# Altium schematic symbol library P101DA_Library.SchLib: 81 symbols (part 1 of 2)
Pins are listed as number, name and electrical type; pins without a type are passive.

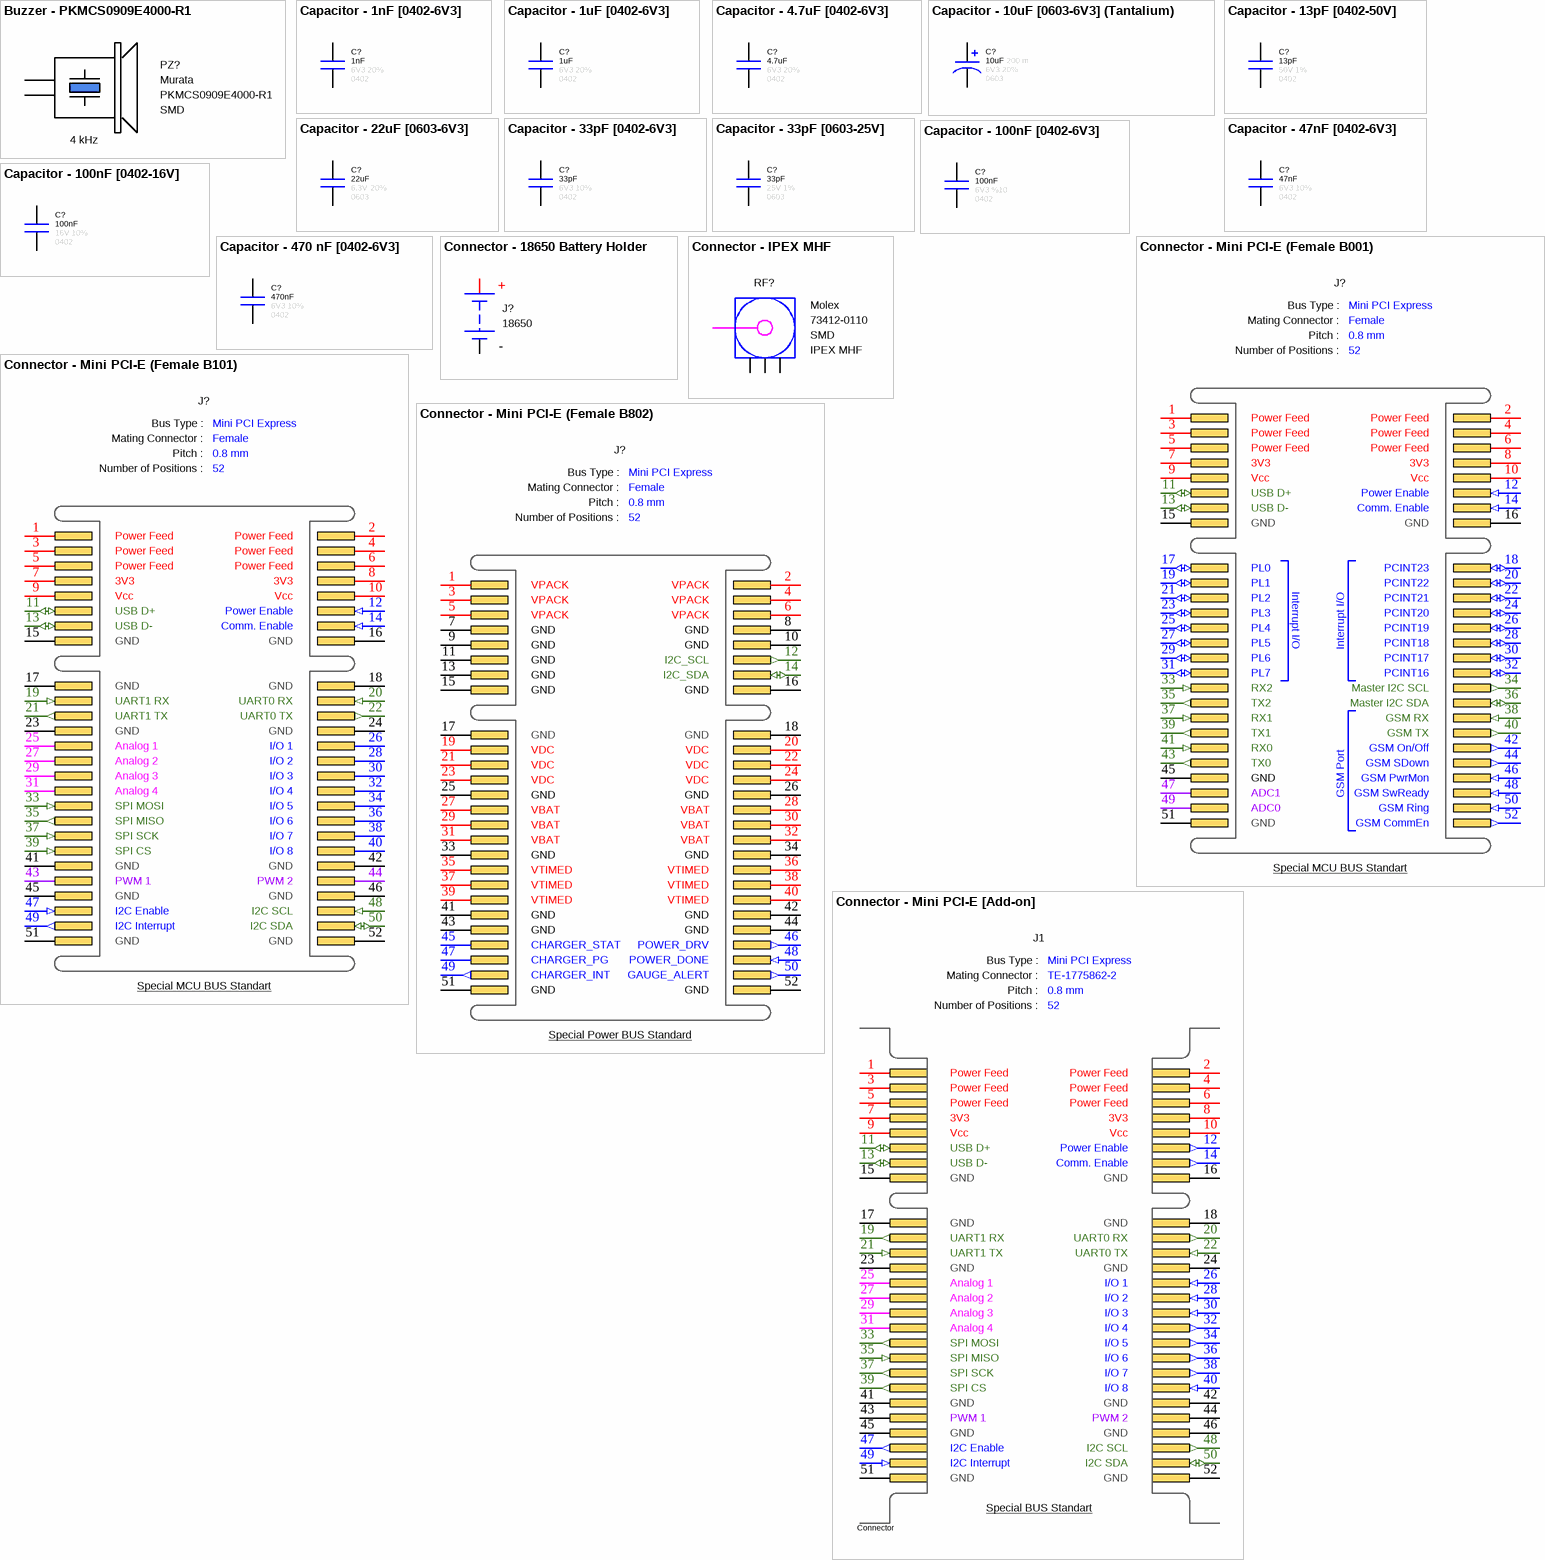
[diagram p0: symbols Buzzer - PKMCS0909E4000-R1 to Connector - Mini PCI-E [Add-on]]

## Buzzer - PKMCS0909E4000-R1
designator PZ?, comment Manufacturer Name: Murata  Case: SMD  Frequency: 4 kHz  (hidden comment: PKMCS0909E4000-R1)
MURATA - PKMCS0909E4000-R1 - Transducer, Piezo, Sounder, Sounder, -12.5 VDC, 12.5 VDC, 65 dB; Sound Pressure Level: 65 dBA; Voltage Rating: 12.5 V; Product Type: Piezo Buzzers; RoHS: Yes; Manufacturer Part Number: PKMCS0909E4000-R1
footprint Murata - Buzzer (PKMCS0909E4000-R1 Buzzer)
pins: 1 +, 2 -

## Capacitor - 1nF [0402-6V3]
designator C?, comment value 1nF  Tolerance: 20%  Case: 0402  Voltage: 6V3  (hidden comment: Capacitor - 1nF [0402] (Ceramic))
Manufacturer Name: AVX; Manufacturer Part Number: 04026C102MAT2A; ComponentLink1Description: DataSheet; ComponentLink1URL: https://www.mouser.com.tr/datasheet/2/40/X7RDielectric-777024.pdf
footprint CAPACITOR_0402 (Chip Capacitor, IPC High Density)
pins: 1, 2

## Capacitor - 1uF [0402-6V3]
designator C?, comment value 1uF  Tolerance: 20%  Case: 0402  Voltage: 6V3  (hidden comment: Capacitor - 1uF [0402] (Ceramic))
Multilayer Ceramic Capacitors - SMD - 6.3V 1uF X5R 0402 20%; Manufacturer Part Number: GRM153R60J105ME95D; Manufacturer Name: Murata
footprint CAPACITOR_0402 (Chip Capacitor, IPC High Density)
pins: 1, 2

## Capacitor - 4.7uF [0402-6V3]
designator C?, comment value 4.7uF  Tolerance: 20%  Case: 0402  Voltage: 6V3  (hidden comment: Capacitor - 4.7uF [0402] (Ceramic))
Multilayer Ceramic Capacitors - SMD - 6V3 4.7uF X5R 0402 20%; Manufacturer Part Number: C0402C475M9PACTU; Manufacturer Name: KEMET
footprint CAPACITOR_0402 (Chip Capacitor, IPC High Density)
pins: 1, 2

## Capacitor - 10uF [0603-6V3] (Tantalium)
designator C?, comment value 10uF  ESR: 200 m  Tolerance: 20%  Case: 0603  Voltage: 6V3  (hidden comment: Capacitor - 10uF [0603] (Tantalum))
Capacitor - 10uF [0603] (Tantalium); Manufacturer Name: AVX; Manufacturer Part Number: F380J106MMAAH3; ComponentLink1Description: DataSheet; ComponentLink1URL: https://www.mouser.com.tr/datasheet/2/40/f38-775706.pdf; ComponentLink2Description: Mouser; ComponentLink2URL: https://www.mouser.com.tr/ProductDetail/AVX/F380J106MMAAH3?qs=sGAEpiMZZMtZ1n0r9vR22fixilZl6Mr8zRKleESmvcDFwZ4LSyC6Pg%3D%3D
footprint CAPACITOR_0603_Tantalum (Chip Capacitor (Tantalum))
pins: 1, 2

## Capacitor - 13pF [0402-50V]
designator C?, comment value 13pF  Tolerance: 1%  Case: 0402  Voltage: 50V  (hidden comment: Capacitor - 13pF [0402] (Ceramic))
Multilayer Ceramic Capacitors - SMD - 50V 13pF X5R 0402 1%; Manufacturer Part Number: CBR04C130F5GAC; Manufacturer Name: KEMET
footprint CAPACITOR_0402 (Chip Capacitor, IPC High Density)
pins: 1, 2

## Capacitor - 22uF [0603-6V3]
designator C?, comment value 22uF  Tolerance: 20%  Case: 0603  Voltage: 6.3V  (hidden comment: Capacitor - 22uF [0603] (Ceramic))
Multilayer Ceramic Capacitors - SMD - 6V3 22uF X5R 0603 20%; Manufacturer Part Number: GRM188R60J226MEA0D; Manufacturer Name: Murata
footprint CAPACITOR_0603 (Chip Capacitor)
pins: 1, 2

## Capacitor - 33pF [0402-6V3]
designator C?, comment value 33pF  Tolerance: 10%  Case: 0402  Voltage: 6V3  (hidden comment: Capacitor - 33pF [0402] (Ceramic))
Manufacturer Name: Kemet; Manufacturer Part Number: C0402C330J9RACAUTO; ComponentLink1Description: DataSheet; ComponentLink1URL: https://api.kemet.com/component-edge/download/datasheet/C0402C330J9RACAUTO.pdf; ComponentLink2Description: Mouser; ComponentLink2URL: https://www.mouser.com/Search/Refine.aspx?Keyword=80-C0402C330J9RAUTO
footprint CAPACITOR_0402 (Chip Capacitor, IPC High Density)
pins: 1, 2

## Capacitor - 33pF [0603-25V]
designator C?, comment value 33pF  Tolerance: 1%  Case: 0603  Voltage: 25V  (hidden comment: Capacitor - 33pF [0603] (Ceramic))
Manufacturer Name: Kyocera AVX; Manufacturer Part Number: 06033A330F4T2A; ComponentLink1Description: DataSheet; ComponentLink1URL: https://api.kemet.com/component-edge/download/datasheet/C0402C330J9RACAUTO.pdf; ComponentLink2Description: Mouser; ComponentLink2URL: https://www.mouser.com/Search/Refine.aspx?Keyword=80-C0402C330J9RAUTO
footprint CAPACITOR_0603 (Chip Capacitor)
pins: 1, 2

## Capacitor - 47nF [0402-6V3]
designator C?, comment value 47nF  Tolerance: 10%  Case: 0402  Voltage: 6V3  (hidden comment: Capacitor - 47nF [0402] (Ceramic))
Multilayer Ceramic Capacitors - SMD - 6.3V 47nF X7R 0402 10%; Manufacturer Name: AVX; Manufacturer Part Number: 04026C473KAT2A
footprint CAPACITOR_0402 (Chip Capacitor, IPC High Density)
pins: 1, 2

## Capacitor - 100nF [0402-6V3]
designator C?, comment value 100nF  Tolerance: %10  Voltage: 6V3  Case: 0402  (hidden comment: Capacitor - 100nF [0402] (Ceramic))
Capacitor - 100nF [0402-6V3] (Ceramic); Manufacturer Name: AVX; Manufacturer Part Number: 04026D104KAT4A; ComponentLink1Description: Mouser; ComponentLink1URL: https://www.mouser.com.tr/ProductDetail/AVX/04026D104KAT4A?qs=sGAEpiMZZMs0AnBnWHyRQPg4iYkCw7IMED%2F4kpqgf7w%3D; ComponentLink2Description: DataSheet; ComponentLink2URL: https://www.mouser.com.tr/datasheet/2/40/cx5r-776519.pdf
footprint CAPACITOR_0402 (Chip Capacitor, IPC High Density)
pins: 1, 2

## Capacitor - 100nF [0402-16V]
designator C?, comment value 100nF  Tolerance: 10%  Case: 0402  Voltage: 16V  (hidden comment: Capacitor - 100nF [0402] (Ceramic))
Multilayer Ceramic Capacitors - SMD - 16V 100nF X7R 0402 10%; Manufacturer Name: AVX; Manufacturer Part Number: 0402YC104KAT2A
footprint CAPACITOR_0402 (Chip Capacitor, IPC High Density)
pins: 1, 2

## Capacitor - 470 nF [0402-6V3]
designator C?, comment value 470nF  Tolerance: 10%  Case: 0402  Voltage: 6V3  (hidden comment: Capacitor - 470nF [0402] (Ceramic))
Multilayer Ceramic Capacitors - SMD - 6.3V 470nF X7R 0402 10%; Manufacturer Name: AVX; Manufacturer Part Number: 04026C474KAT2A
footprint CAPACITOR_0402 (Chip Capacitor, IPC High Density)
pins: 1, 2

## Connector - 18650 Battery Holder
designator J?, comment Battery Size: 18650  (hidden comment: 54)
BATTERY CONTACT CLP 18650 PC PIN; Manufacturer Name: Keystone Electronics; Manufacturer Part Number: 54; Product Type: Battery Holders; RoHS: Yes
footprint BATTERY_HOLDER - Bat (Battery)
pins: 1 BAT+ (power), 2 BAT- (power)
text: +; -

## Connector - IPEX MHF
designator RF?, comment Connector Type: IPEX MHF  Case: SMD  Manufacturer Name: Molex  (hidden comment: 73412-0110)
MOLEX   73412-0110   RF COAXIAL, MICROCOAXIAL, JACK, 50OHM; System: Connector; ROHS: Yes; Product Type: RF Connectors; Impedance: 50 Ohm; Manufacturer Part Number: 73412-0110
footprint Connector_IPEX
pins: 1 Signal, 2 GND, 3 GND, 4 GND

## Connector - Mini PCI-E (Female B001)
designator J?, comment BUS Type: Mini PCI Express  Connector Type: Female  Pitch: 0.8 mm  Number of Positions: 52  (hidden comment: TE-1775862-2)
Mini PCI-Express female connector.; Manufacturer Name: TE Connectivity; Manufacturer Part Number: TE-1775862-2; System: Connector
footprint CONNECTOR - Mini PCIe (Mini PCI Express & mSATA, Board-to-Board, 52 Position, .031 in [.8 mm] Centerline, Stack Height 5.2 mm [.205 in], Gold Flash, Matte, Mini PCI Express)
pins: 1 Pin-1 (power), 2 Pin-2 (power), 3 Pin-3 (power), 4 Pin-4 (power), 5 Pin-5 (power), 6 Pin-6 (power), 7 Pin-7 (power), 8 Pin-8 (power), 9 Pin-9 (power), 10 Pin-10 (power), 11 Pin-11 (io), 12 Pin-12 (in), 13 Pin-13 (io), 14 Pin-14 (in), 15 Pin-15 (power), 16 Pin-16 (power), 17 Pin-17 (io), 18 Pin-18 (io), 19 Pin-19 (io), 20 Pin-20 (io), 21 Pin-21 (io), 22 Pin-22 (io), 23 Pin-23 (io), 24 Pin-24 (io), 25 Pin-25 (io), 26 Pin-26 (io), 27 Pin-27 (io), 28 Pin-28 (io), 29 Pin-29 (io), 30 Pin-30 (io), 31 Pin-31 (io), 32 Pin-32 (io), 33 Pin-33 (in), 34 Pin-34 (out), 35 Pin-35 (out), 36 Pin-36 (io), 37 Pin-37 (in), 38 Pin-38 (in), 39 Pin-39 (out), 40 Pin-40 (out), 41 Pin-41 (in), 42 Pin-42 (out), 43 Pin-43 (out), 44 Pin-44 (out), 45 Pin-45, 46 Pin-46 (in), 47 Pin-47, 48 Pin-48 (in), 49 Pin-49, 50 Pin-50 (in), 51 Pin-51 (power), 52 Pin-52 (out)
text: Bus Type :; Mating Connector :; Pitch :; Number of Positions :; Power Feed; 3V3; Vcc; USB D+; Power Enable; USB D-; Comm. Enable; GND; PL0; PCINT23; PL1; PCINT22; Interrupt I/O; PL2; PCINT21; PL3; PCINT20; PL4; PCINT19; PL5; PCINT18; PL6; PCINT17; PL7; PCINT16; RX2; Master I2C SCL; TX2; Master I2C SDA; RX1; GSM RX; TX1; GSM TX; RX0; GSM Port; GSM On/Off; TX0; GSM SDown; GSM PwrMon; ADC1; GSM SwReady; ADC0; GSM Ring; GSM CommEn; Special MCU BUS Standart

## Connector - Mini PCI-E (Female B101)
designator J?, comment BUS Type: Mini PCI Express  Connector Type: Female  Pitch: 0.8 mm  Number of Positions: 52  (hidden comment: TE-1775862-2)
Mini PCI-Express female connector.; Manufacturer Name: TE Connectivity; Manufacturer Part Number: TE-1775862-2; System: Connector
footprint CONNECTOR - Mini PCIe (Mini PCI Express & mSATA, Board-to-Board, 52 Position, .031 in [.8 mm] Centerline, Stack Height 5.2 mm [.205 in], Gold Flash, Matte, Mini PCI Express)
pins: 1 Pin-1 (power), 2 Pin-2 (power), 3 Pin-3 (power), 4 Pin-4 (power), 5 Pin-5 (power), 6 Pin-6 (power), 7 Pin-7 (power), 8 Pin-8 (power), 9 Pin-9 (power), 10 Pin-10 (power), 11 Pin-11 (io), 12 Pin-12 (in), 13 Pin-13 (io), 14 Pin-14 (in), 15 Pin-15 (power), 16 Pin-16 (power), 17 Pin-17 (power), 18 Pin-18 (power), 19 Pin-19 (in), 20 Pin-20 (in), 21 Pin-21 (out), 22 Pin-22 (out), 23 Pin-23 (power), 24 Pin-24 (power), 25 Pin-25, 26 Pin-26, 27 Pin-27, 28 Pin-28, 29 Pin-29, 30 Pin-30, 31 Pin-31, 32 Pin-32, 33 Pin-33 (in), 34 Pin-34, 35 Pin-35 (out), 36 Pin-36, 37 Pin-37 (in), 38 Pin-38, 39 Pin-39 (in), 40 Pin-40, 41 Pin-41 (power), 42 Pin-42 (power), 43 Pin-43, 44 Pin-44, 45 Pin-45 (power), 46 Pin-46 (power), 47 Pin-47 (in), 48 Pin-48 (in), 49 Pin-49 (out), 50 Pin-50 (io), 51 Pin-51 (power), 52 Pin-52 (power)
text: Bus Type :; Mating Connector :; Pitch :; Number of Positions :; Power Feed; 3V3; Vcc; USB D+; Power Enable; USB D-; Comm. Enable; GND; UART1 RX; UART0 RX; UART1 TX; UART0 TX; Analog 1; I/O 1; Analog 2; I/O 2; Analog 3; I/O 3; Analog 4; I/O 4; SPI MOSI; I/O 5; SPI MISO; I/O 6; SPI SCK; I/O 7; SPI CS; I/O 8; PWM 1; PWM 2; I2C Enable; I2C SCL; I2C Interrupt; I2C SDA; Special MCU BUS Standart

## Connector - Mini PCI-E (Female B802)
designator J?, comment BUS Type: Mini PCI Express  Connector Type: Female  Pitch: 0.8 mm  Number of Positions: 52  (hidden comment: TE-1775862-2)
Mini PCI-Express female connector.; Manufacturer Name: TE Connectivity; Manufacturer Part Number: TE-1775862-2; System: Connector
footprint CONNECTOR - Mini PCIe (Light) (Mini PCI Express & mSATA, Board-to-Board, 52 Position, .031 in [.8 mm] Centerline, Stack Height 5.2 mm [.205 in], Gold Flash, Matte, Mini PCI Express)
pins: 1 Pin-1 (power), 2 Pin-2 (power), 3 Pin-3 (power), 4 Pin-4 (power), 5 Pin-5 (power), 6 Pin-6 (power), 7 Pin-7 (power), 8 Pin-8 (power), 9 Pin-9 (power), 10 Pin-10 (power), 11 Pin-11 (power), 12 Pin-12 (out), 13 Pin-13 (power), 14 Pin-14 (io), 15 Pin-15 (power), 16 Pin-16 (power), 17 Pin-17 (power), 18 Pin-18 (power), 19 Pin-19 (power), 20 Pin-20 (power), 21 Pin-21 (power), 22 Pin-22 (power), 23 Pin-23 (power), 24 Pin-24 (power), 25 Pin-25, 26 Pin-26, 27 Pin-27 (power), 28 Pin-28 (power), 29 Pin-29 (power), 30 Pin-30 (power), 31 Pin-31 (power), 32 Pin-32 (power), 33 Pin-33 (power), 34 Pin-34 (power), 35 Pin-35 (power), 36 Pin-36 (power), 37 Pin-37 (power), 38 Pin-38 (power), 39 Pin-39 (power), 40 Pin-40 (power), 41 Pin-41 (power), 42 Pin-42 (power), 43 Pin-43, 44 Pin-44, 45 Pin-45, 46 Pin-46 (out), 47 Pin-47, 48 Pin-48 (in), 49 Pin-49 (out), 50 Pin-50 (out), 51 Pin-51 (power), 52 Pin-52 (power)
text: Bus Type :; Mating Connector :; Pitch :; Number of Positions :; VPACK; GND; I2C_SCL; I2C_SDA; VDC; VBAT; VTIMED; CHARGER_STAT; POWER_DRV; CHARGER_PG; POWER_DONE; CHARGER_INT; GAUGE_ALERT; Special Power BUS Standard

## Connector - Mini PCI-E [Add-on]
designator J1  BUS Type: Mini PCI Express  Mating Connector: TE-1775862-2  Pitch: 0.8 mm  Number of Positions: 52  System: Connector  (no BOM)
Mini PCI-Express gold finger connector.
footprint PCB - Mini PCI Express
pins: 1 Pin-1 (power), 2 Pin-2 (power), 3 Pin-3 (power), 4 Pin-4 (power), 5 Pin-5 (power), 6 Pin-6 (power), 7 Pin-7 (power), 8 Pin-8 (power), 9 Pin-9 (power), 10 Pin-10 (power), 11 Pin-11 (io), 12 Pin-12 (out), 13 Pin-13 (io), 14 Pin-14 (out), 15 Pin-15 (power), 16 Pin-16 (power), 17 Pin-17 (power), 18 Pin-18 (power), 19 Pin-19 (out), 20 Pin-20 (out), 21 Pin-21 (in), 22 Pin-22 (in), 23 Pin-23 (power), 24 Pin-24 (power), 25 Pin-25, 26 Pin-26 (in), 27 Pin-27, 28 Pin-28 (in), 29 Pin-29, 30 Pin-30 (in), 31 Pin-31, 32 Pin-32 (out), 33 Pin-33 (out), 34 Pin-34 (out), 35 Pin-35 (in), 36 Pin-36 (out), 37 Pin-37 (out), 38 Pin-38 (out), 39 Pin-39 (out), 40 Pin-40 (in), 41 Pin-41 (power), 42 Pin-42 (power), 43 Pin-43, 44 Pin-44, 45 Pin-45 (power), 46 Pin-46 (power), 47 Pin-47 (out), 48 Pin-48 (out), 49 Pin-49 (in), 50 Pin-50 (io), 51 Pin-51 (power), 52 Pin-52 (power)
text: Bus Type :; Mating Connector :; Pitch :; Number of Positions :; Power Feed; 3V3; Vcc; USB D+; Power Enable; USB D-; Comm. Enable; GND; UART1 RX; UART0 RX; UART1 TX; UART0 TX; Analog 1; I/O 1; Analog 2; I/O 2; Analog 3; I/O 3; Analog 4; I/O 4; SPI MOSI; I/O 5; SPI MISO; I/O 6; SPI SCK; I/O 7; SPI CS; I/O 8; PWM 1; PWM 2; I2C Enable; I2C SCL; I2C Interrupt; I2C SDA; Special BUS Standart

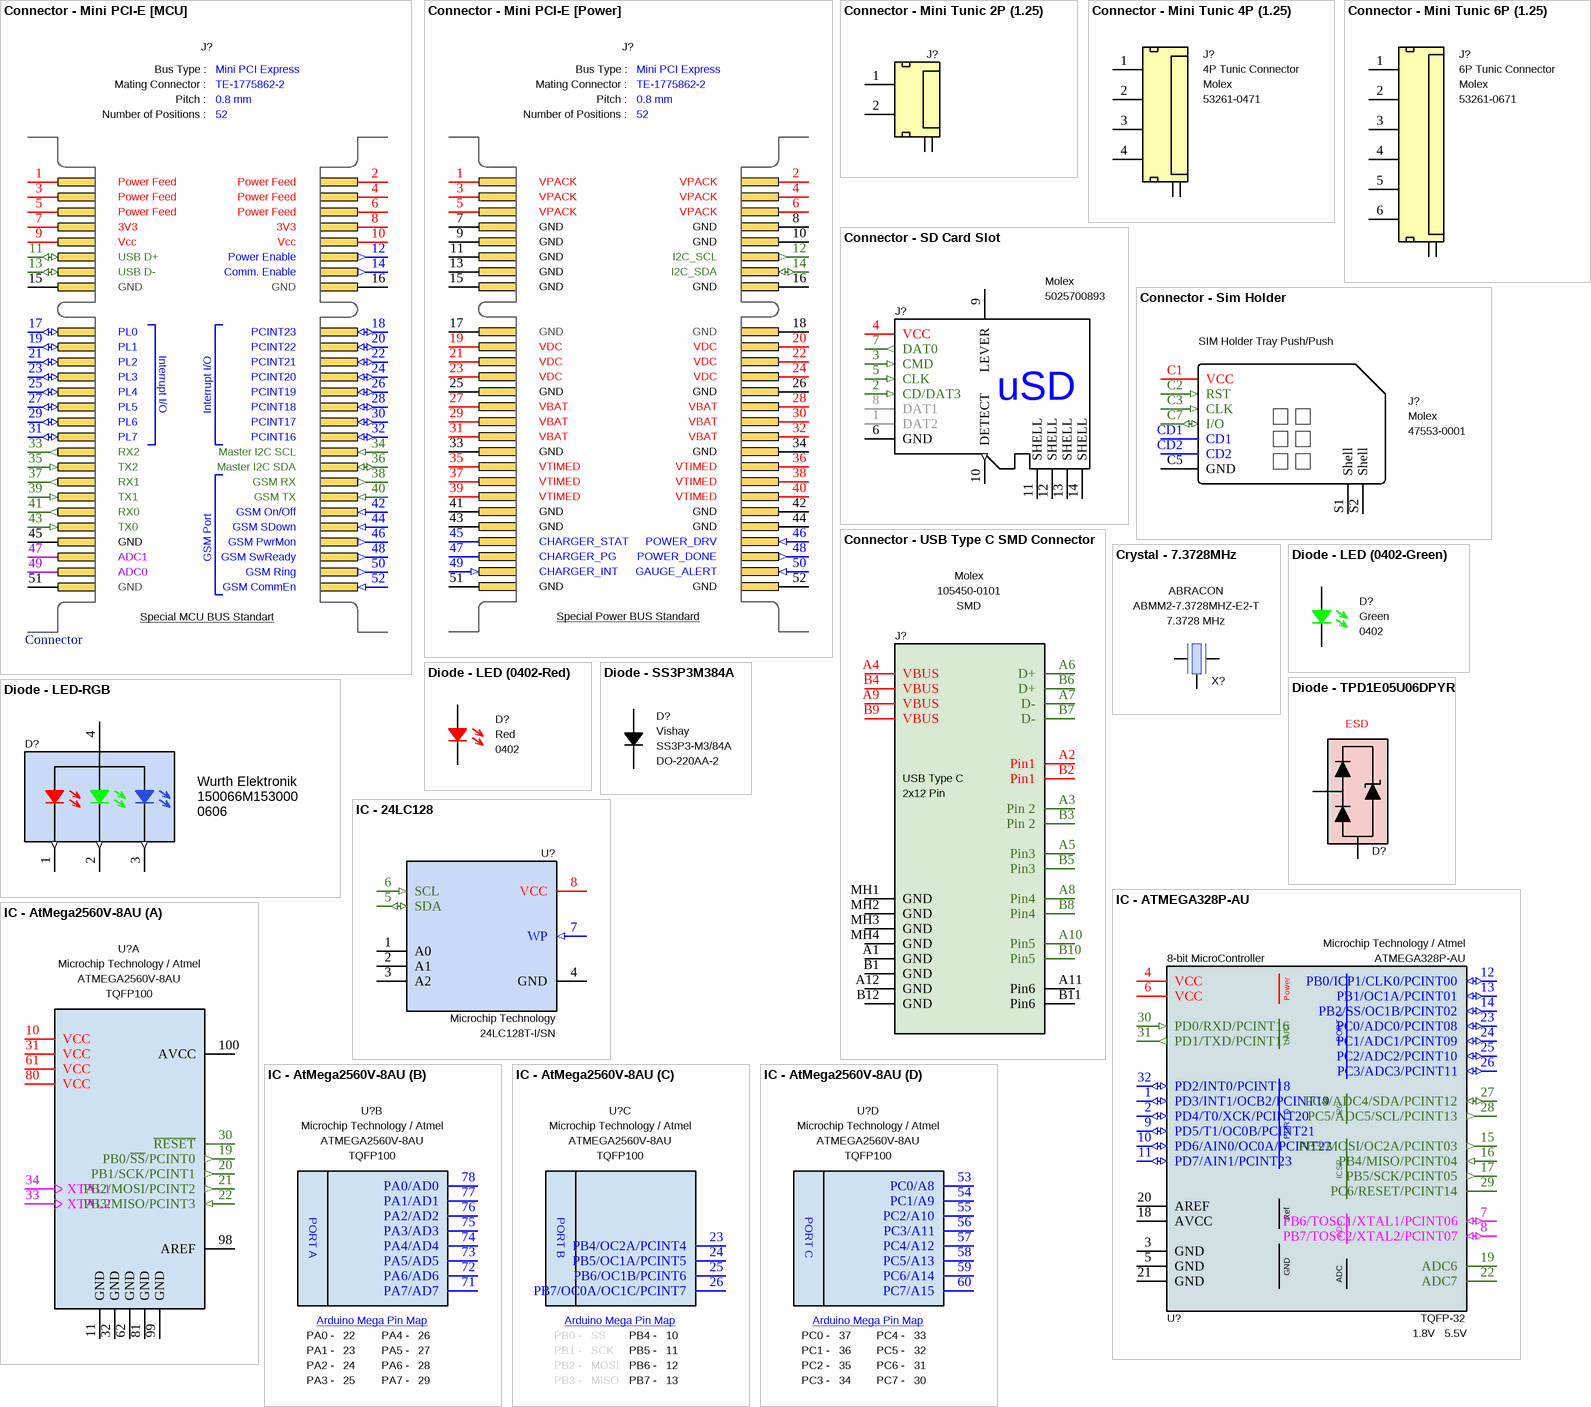
[diagram p1: symbols Connector - Mini PCI-E [MCU] to IC - AtMega2560V-8AU]

## Connector - Mini PCI-E [MCU]
designator J?, comment BUS Type: Mini PCI Express  Mating Connector: TE-1775862-2  Pitch: 0.8 mm  Number of Positions: 52  System: Connector  (hidden comment: PCI-E Connector)  (no BOM)
Mini PCI-Express gold finger connector.
footprint PCB - Mini PCI Express
pins: 1 Pin-1 (power), 2 Pin-2 (power), 3 Pin-3 (power), 4 Pin-4 (power), 5 Pin-5 (power), 6 Pin-6 (power), 7 Pin-7 (power), 8 Pin-8 (power), 9 Pin-9 (power), 10 Pin-10 (power), 11 Pin-11 (io), 12 Pin-12 (out), 13 Pin-13 (io), 14 Pin-14 (out), 15 Pin-15 (power), 16 Pin-16 (power), 17 Pin-17 (io), 18 Pin-18 (io), 19 Pin-19 (io), 20 Pin-20 (io), 21 Pin-21 (io), 22 Pin-22 (io), 23 Pin-23 (io), 24 Pin-24 (io), 25 Pin-25 (io), 26 Pin-26 (io), 27 Pin-27 (io), 28 Pin-28 (io), 29 Pin-29 (io), 30 Pin-30 (io), 31 Pin-31 (io), 32 Pin-32 (io), 33 Pin-33 (out), 34 Pin-34 (in), 35 Pin-35 (in), 36 Pin-36 (io), 37 Pin-37 (out), 38 Pin-38 (out), 39 Pin-39 (in), 40 Pin-40 (in), 41 Pin-41 (out), 42 Pin-42 (in), 43 Pin-43 (in), 44 Pin-44 (in), 45 Pin-45, 46 Pin-46 (out), 47 Pin-47, 48 Pin-48 (out), 49 Pin-49, 50 Pin-50 (out), 51 Pin-51 (power), 52 Pin-52 (in)
text: Bus Type :; Mating Connector :; Pitch :; Number of Positions :; Power Feed; 3V3; Vcc; USB D+; Power Enable; USB D-; Comm. Enable; GND; PL0; PCINT23; PL1; PCINT22; Interrupt I/O; PL2; PCINT21; PL3; PCINT20; PL4; PCINT19; PL5; PCINT18; PL6; PCINT17; PL7; PCINT16; RX2; Master I2C SCL; TX2; Master I2C SDA; RX1; GSM RX; TX1; GSM TX; RX0; GSM Port; GSM On/Off; TX0; GSM SDown; GSM PwrMon; ADC1; GSM SwReady; ADC0; GSM Ring; GSM CommEn; Special MCU BUS Standart

## Connector - Mini PCI-E [Power]
designator J?  BUS Type: Mini PCI Express  Mating Connector: TE-1775862-2  Pitch: 0.8 mm  Number of Positions: 52  (no BOM)
Mini PCI-Express gold finger connector.; System: Connector
footprint PCB - Mini PCI Express
pins: 1 Pin-1 (power), 2 Pin-2 (power), 3 Pin-3 (power), 4 Pin-4 (power), 5 Pin-5 (power), 6 Pin-6 (power), 7 Pin-7 (power), 8 Pin-8 (power), 9 Pin-9 (power), 10 Pin-10 (power), 11 Pin-11 (power), 12 Pin-12 (out), 13 Pin-13 (power), 14 Pin-14 (io), 15 Pin-15 (power), 16 Pin-16 (power), 17 Pin-17 (power), 18 Pin-18 (power), 19 Pin-19 (power), 20 Pin-20 (power), 21 Pin-21 (power), 22 Pin-22 (power), 23 Pin-23 (power), 24 Pin-24 (power), 25 Pin-25, 26 Pin-26, 27 Pin-27 (power), 28 Pin-28 (power), 29 Pin-29 (power), 30 Pin-30 (power), 31 Pin-31 (power), 32 Pin-32 (power), 33 Pin-33 (power), 34 Pin-34 (power), 35 Pin-35 (power), 36 Pin-36 (power), 37 Pin-37 (power), 38 Pin-38 (power), 39 Pin-39 (power), 40 Pin-40 (power), 41 Pin-41 (power), 42 Pin-42 (power), 43 Pin-43, 44 Pin-44, 45 Pin-45, 46 Pin-46 (in), 47 Pin-47, 48 Pin-48 (out), 49 Pin-49 (in), 50 Pin-50 (in), 51 Pin-51 (power), 52 Pin-52 (power)
text: Bus Type :; Mating Connector :; Pitch :; Number of Positions :; VPACK; GND; I2C_SCL; I2C_SDA; VDC; VBAT; VTIMED; CHARGER_STAT; POWER_DRV; CHARGER_PG; POWER_DONE; CHARGER_INT; GAUGE_ALERT; Special Power BUS Standard

## Connector - Mini Tunic 2P (1.25)
designator J?, comment 2P SMD Tunic Connector  (value not drawn)
Mini Tunic Connector with 2P; Manufacturer Name: Molex; Manufacturer Part Number: 53261-0271; Height: 3.55mm; Mouser Part Number: 538-53261-0271; ROHS: Yes
footprint Connector_Tunic 2P (2P Tunic Connector)
pins: 1 Pin1, 2 Pin2, 3 GND "Body Fix Pin", 4 GND "Body Fix Pin"

## Connector - Mini Tunic 4P (1.25)
designator J?, comment Manufacturer Name: Molex  Manufacturer Part Number: 53261-0471  (hidden comment: 4P SMD Tunic Connector)
Mini Tunic Connector with 4P; Pitch: 1.25mm; Position: 4; ROHS: Yes; ComponentLink1Description: DataSheet; ComponentLink1URL: https://www.mouser.com.tr/datasheet/2/276/0532610471_PCB_HEADERS-170942.pdf; ComponentLink2Description: Mouser; ComponentLink2URL: https://www.mouser.com.tr/ProductDetail/Molex/53261-0471?qs=%2Fha2pyFaduhLhIsk8tywtK7BwWtguBSP4XxyDBTOTfs%3D; Case: SMD
footprint Connector_Tunic 4P (4P Tunic Connector)
pins: 1 Pin-1, 2 Pin-2, 3 Pin-3, 4 Pin-4, 5 GND, 6 GND
text: 4P Tunic Connector

## Connector - Mini Tunic 6P (1.25)
designator J?, comment 6P Tunic Connector  Manufacturer Part Number: 53261-0671  Manufacturer Name: Molex
Mini Tunic Connector with 6P; ROHS: Yes
footprint Connector_Tunic 6P (6P Tunic Connector)
pins: 1 VBAT, 2 M_DRV, 3 M_DRV, 4 M_DRV, 5 M_DRV, 6 M_DRV, 7 GND, 8 GND

## Connector - SD Card Slot
designator J?, comment Manufacturer Name: Molex  (hidden comment: 5025700893)
CONN MICRO SD CARD PUSH-PUSH R/A; Product Type: Card Connectors; Case: SMD; RoHS: Yes; Card Type: microSD; Manufacturer Part Number: 5025700893
footprint CONNECTOR - SD Card (Molex 5025700893)
pins: 1 DAT2, 2 CD/DAT3 (in), 3 CMD (in), 4 VCC (power), 5 CLK (in), 6 GND (power), 7 DAT0 (out), 8 DAT1, 9 LEVER (power), 10 DETECT (out), 11 SHELL (power), 12 SHELL (power), 13 SHELL (power), 14 SHELL (power)
text: uSD

## Connector - Sim Holder
designator J?, comment Card Type: SIM Holder Tray Push/Push  Manufacturer Name: Molex  Manufacturer Part Number: 47553-0001  (hidden comment: SIM Holder Tray)
Memory Card Connectors ASSY 1.90 SIM CARD R IM CARD READER CONN.
footprint CONNECTOR - SIM Card (Molex 47553-0001)
pins: C1 VCC (power), C2 RST (in), C3 CLK (in), C5 GND (power), C7 I/O (io), CD1, CD2, S1 Shell (power), S2 Shell (power)

## Connector - USB Type C SMD Connector
designator J?, comment Manufacturer Name: Molex  Case: SMD  (hidden comment: 105450-0101)
USB Shielded I/O Receptacle; Type C; Right Angle; Surface Mount; Gold over Nickel; Current Rating: 5 A.; Gender: Jack (Female); Number of Contacts: 24 Contact; Voltage Rating: 30 V; Maximum Operating Temperature: + 85 C; Minimum Operating Temperature: - 30 C; Mounting Angle: Right Angle; Product Type: USB Connectors; RoHS: Yes; Manufacturer Part Number: 105450-0101
footprint USB Type C - Molex 105450-0101 (Molex Type C Plug)
pins: A1 GND, A2 Pin1, A3 Pin 2, A4 VBUS, A5 Pin3, A6 D+, A7 D-, A8 Pin4, A9 VBUS, A10 Pin5, A11 Pin6, A12 GND, B1 GND, B2 Pin1, B3 Pin 2, B4 VBUS, B5 Pin3, B6 D+, B7 D-, B8 Pin4, B9 VBUS, B10 Pin5, B11 Pin6, B12 GND, MH1 GND, MH2 GND, MH3 GND, MH4 GND
text: USB Type C; 2x12 Pin

## Crystal - 7.3728MHz
designator X?, comment Manufacturer Name: ABRACON  Frequency: 7.3728 MHz  (hidden comment: ABMM2-7.3728MHZ-E2-T)
CRYSTAL 7.3728MHZ 18PF SMD; ESR: 150 Ohms; Product Type: Crystals; Minimum Operating Temperature: - 20 C; Maximum Operating Temperature: + 70 C; Load Capacitance: 18 pF; RoHS: Yes; Case: SMD; Manufacturer Part Number: ABMM2-7.3728MHZ-E2-T
footprint CRYSTAL - 7.3728 MHz (ABMM2-7.3728MHZ-E2-T)
pins: 1 IN/OUT, 2 GND, 3 OUT/IN, 4 GND hidden

## Diode - LED (0402-Green)
designator D?, comment Case: 0402  Color: Green  (hidden comment: SMD LED (Green))
Standard LEDs - SMD MINI-MOLD ULTRA COMPACT GREEN; Manufacturer Name: ROHM Semiconductor; Manufacturer Part Number: SML-P12MTT86R; ROHS: Yes; ComponentLink1Description: DataSheet; ComponentLink1URL: https://www.mouser.com.tr/datasheet/2/348/sml-p1-e-1139198.pdf; ComponentLink2Description: Mouser; ComponentLink2URL: https://www.mouser.com.tr/ProductDetail/ROHM-Semiconductor/SML-P12U2TT86R?qs=sGAEpiMZZMseGfSY3csMkRIBDsfU3UCXJTULB5gem9Ta%252Bp%252BvZ709fg%3D%3D
footprint LED_0402 (LED, IPC High Density)
pins: 1, 2

## Diode - LED (0402-Red)
designator D?, comment Case: 0402  Color: Red  (hidden comment: SMD LED (Red))
Standard LEDs - SMD MINI-MOLD ULTRA COMPACT RED; Manufacturer Name: ROHM Semiconductor; Manufacturer Part Number: SML-P12VTT86R; ROHS: Yes; ComponentLink1Description: DataSheet; ComponentLink1URL: https://www.mouser.com.tr/datasheet/2/348/sml-p1-e-1139198.pdf; ComponentLink2Description: Mouser; ComponentLink2URL: https://www.mouser.com.tr/ProductDetail/ROHM-Semiconductor/SML-P12U2TT86R?qs=sGAEpiMZZMseGfSY3csMkRIBDsfU3UCXJTULB5gem9Ta%252Bp%252BvZ709fg%3D%3D
footprint LED_0402 (LED, IPC High Density)
pins: 1, 2

## Diode - LED-RGB
designator D?, comment Manufacturer Name: Wurth Elektronik  Case: 0606  (hidden comment: 150066M153000)
LED RGB DIFFUSED SMD; If - Forward Current: 20 mA; Vf - Forward Voltage: 2 V, 3.3 V; Product Type: LED; Minimum Operating Temperature: - 40 C; Maximum Operating Temperature: + 85 C; ROHS: Yes; Manufacturer Part Number: 150066M153000
footprint Wurth_0606
pins: 1 (out), 2 (out), 3 (out), 4 (power)

## Diode - SS3P3M384A
designator D?, comment Manufacturer Name: Vishay  Case: DO-220AA-2  (hidden comment: SS3P3-M3/84A)
Schottky Diodes & Rectifiers 3.0 Amp 30 Volt 50 Amp IFSM; Forward Current: 3 A; Forward Voltage: 580 mV; Maximum Operating Temperature: + 150 C; Minimum Operating Temperature: - 55 C; Product Type: Schottky Diodes & Rectifiers; RoHS: Yes; Manufacturer Part Number: SS3P3-M3/84A
footprint DO-220AA-2
pins: 1 Anode, 2 Cathode

## Diode - TPD1E05U06DPYR
designator D?, comment 0402ESDA-MLP1  (value not drawn)
SUPPRESSOR ESD 30VDC 0402 HFREE; Manufacturer Name: Eaton; Breakdown Voltage: 30V; Capacitance: 0.15pF; Manufacturer Part Number: 0402ESDA-MLP1; Case: 0402
footprint ESD_0402 (ESD, IPC High Density)
pins: 1 I/O, 2 GND
text: ESD

## IC - 24LC128
designator U?, comment Manufacturer Part Number: 24LC128T-I/SN  Manufacturer Name: Microchip Technology  (hidden comment: EEPROM)
Case: SOIC-8; RoHS: Yes; ComponentLink1Description: DataSheet; ComponentLink1URL: https://www.mouser.com.tr/datasheet/2/256/DS28CM00-1514106.pdf; ComponentLink2Description: Mouser; ComponentLink2URL: https://www.mouser.com.tr/ProductDetail/Maxim-Integrated/DS28CM00R-A00%2bT/?qs=0Y9aZN%252BMVCUcpogu0Fss%2Fg%3D%3D
footprint SOIC-8 Narrow
pins: 1 A0, 2 A1, 3 A2, 4 GND, 5 SDA (io), 6 SCL (in), 7 WP (in), 8 VCC (power)

## IC - ATMEGA328P-AU
designator U?, comment 8-bit MicroController  Supply Voltage - Max: 5.5V  Supply Voltage - Min: 1.8V  Manufacturer Name: Microchip Technology / Atmel  Manufacturer Part Number: ATMEGA328P-AU  Case: TQFP-32
8-bit Microcontrollers - MCU 32KB In-system Flash 20MHz 1.8V-5.5V; Height: 1mm; ComponentLink1Description: DataSheet; ComponentLink1URL: http://ww1.microchip.com/downloads/en/DeviceDoc/ATmega48A-PA-88A-PA-168A-PA-328-P-DS-DS40002061A.pdf; ROHS: Yes; Minimum Operating Temperature: -40; Maximum Operating Temperature: +85; ComponentLink2Description: Mouser; ComponentLink2URL: https://www.mouser.com.tr/ProductDetail/Microchip-Technology-Atmel/ATMEGA328P-AU?qs=sGAEpiMZZMtVoztFdqDXO3RbBx7FKCmV; ComponentLink3Description: ProductPage; ComponentLink3URL: https://www.microchip.com/wwwproducts/en/ATmega328p
footprint TQFN-32
pins: 1 PD3/INT1/OCB2/PCINT19 (io), 2 PD4/T0/XCK/PCINT20 (io), 3 GND (power), 4 VCC (power), 5 GND (power), 6 VCC (power), 7 PB6/TOSC1/XTAL1/PCINT06 (io), 8 PB7/TOSC2/XTAL2/PCINT07 (io), 9 PD5/T1/OC0B/PCINT21 (io), 10 PD6/AIN0/OC0A/PCINT22 (io), 11 PD7/AIN1/PCINT23 (io), 12 PB0/ICP1/CLK0/PCINT00 (io), 13 PB1/OC1A/PCINT01 (io), 14 PB2/SS/OC1B/PCINT02 (io), 15 PB3/MOSI/OC2A/PCINT03 (out), 16 PB4/MISO/PCINT04 (in), 17 PB5/SCK/PCINT05 (out), 18 AVCC, 19 ADC6, 20 AREF, 21 GND (power), 22 ADC7, 23 PC0/ADC0/PCINT08 (io), 24 PC1/ADC1/PCINT09 (io), 25 PC2/ADC2/PCINT10 (io), 26 PC3/ADC3/PCINT11 (io), 27 PC4/ADC4/SDA/PCINT12 (io), 28 PC5/ADC5/SCL/PCINT13 (out), 29 PC6/RESET/PCINT14, 30 PD0/RXD/PCINT16 (in), 31 PD1/TXD/PCINT17 (out), 32 PD2/INT0/PCINT18 (io)
text: Power; PORT C; UART; I2C; PORT D; ICSP; Ref; ADC

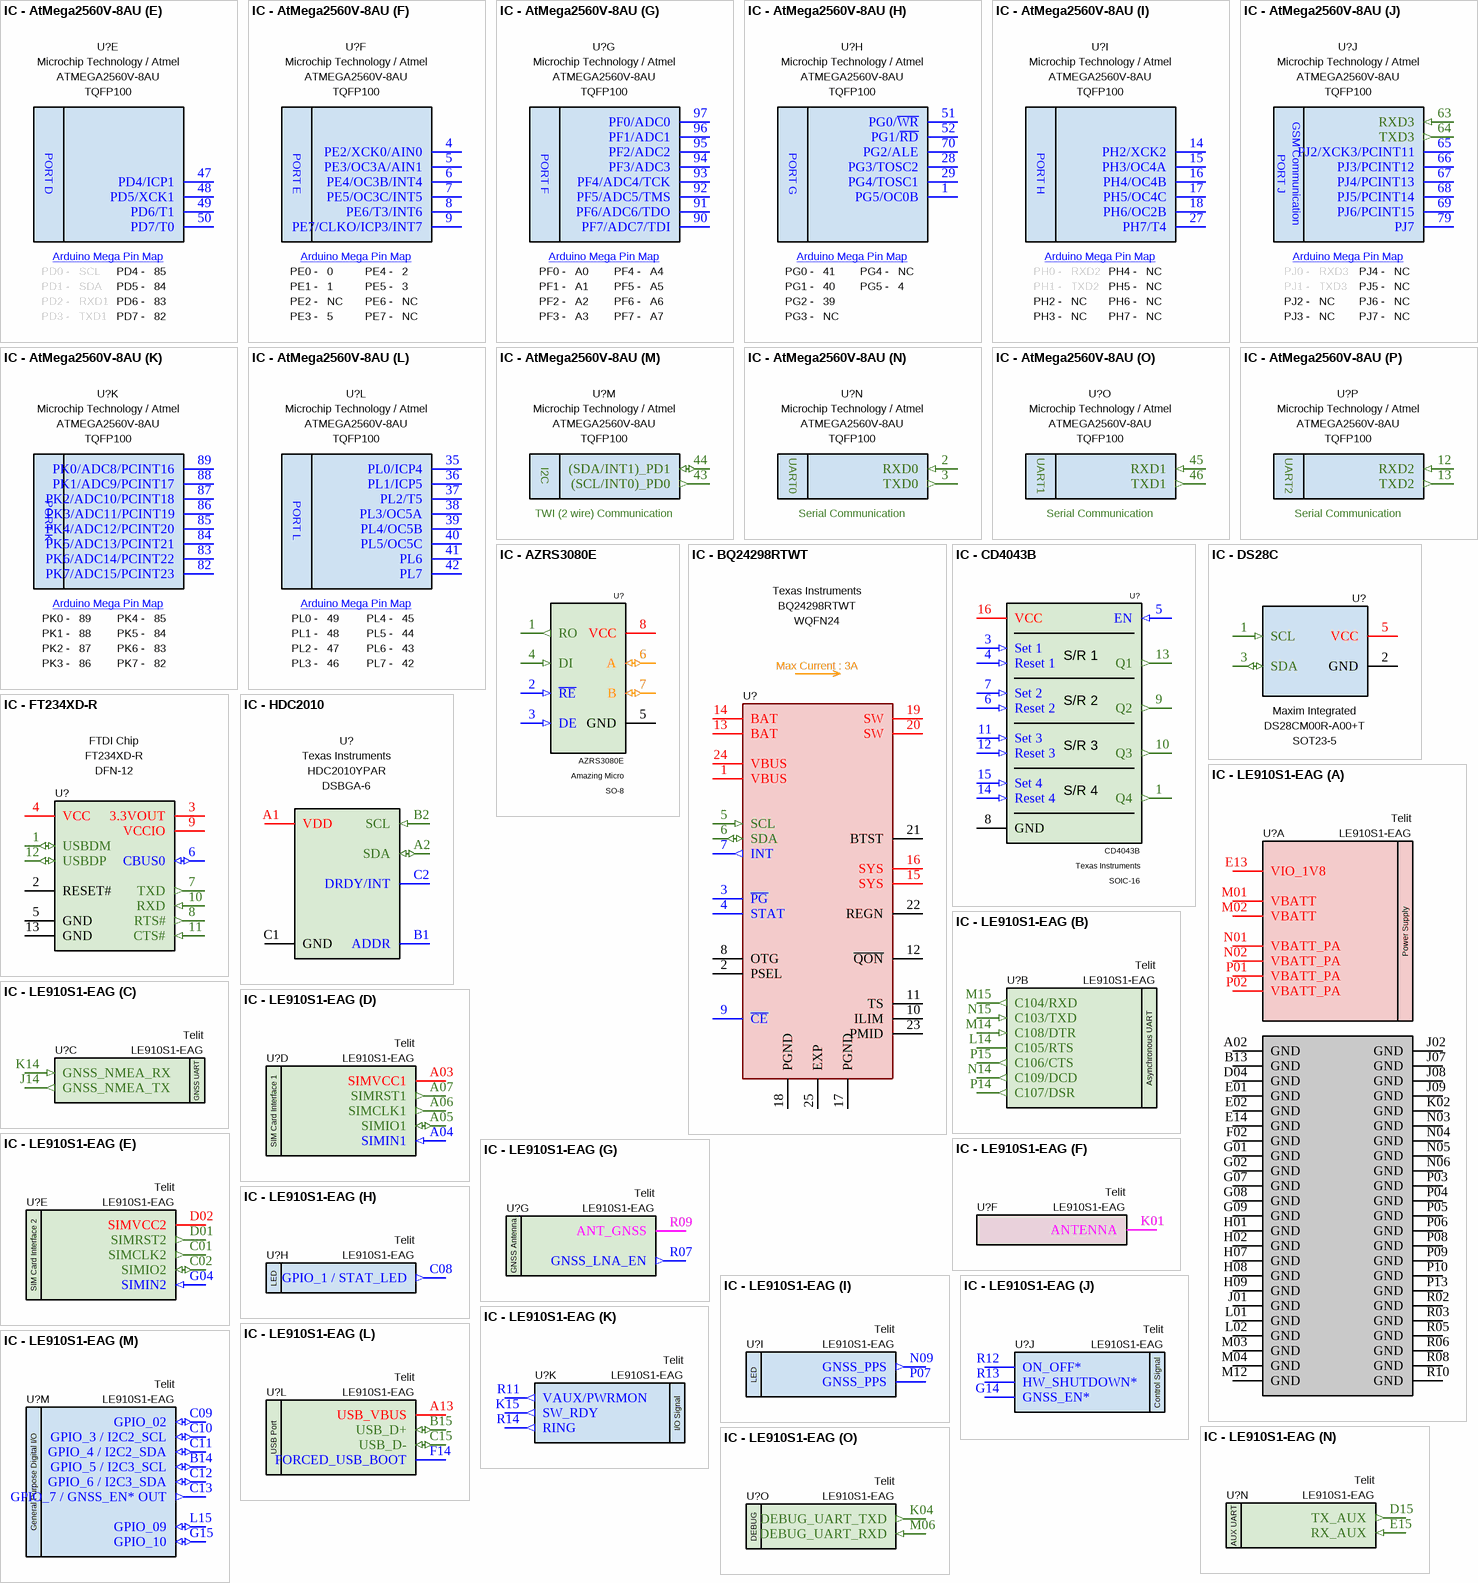
[diagram p2: symbols IC - AtMega2560V-8AU to IC - LE910S1-EAG]

## IC - AtMega2560V-8AU
designator U?, comment Manufacturer Name: Microchip Technology / Atmel  Case: TQFP100  (hidden comment: ATMEGA2560V-8AU)
ATmega Series 256 KB Flash 8 KB SRAM 8 MHz 8-Bit Microcontroller - TQFP-100; Program Memory Size: 256 kB; Core: AVR; Operating Supply Voltage: 2.7 V to 5.5 V; Maximum Clock Frequency: 8 MHz; Maximum Operating Temperature: + 85 C; Product Type: MicroControllers; Minimum Operating Temperature: - 40 C; Manufacturer Part Number: ATMEGA2560V-8AU
footprint TQFP-100 (TSQFP, 100-Leads, Body 14,00x14,00mm, Pitch 0,50mm, IPC High Density)
part A pins: 10 VCC (power), 11 GND, 19 PB0/~{SS}/PCINT0 (out), 20 PB1/SCK/PCINT1 (out), 21 PB2/MOSI/PCINT2 (out), 22 PB3/MISO/PCINT3 (in), 30 ~{RESET}, 31 VCC (power), 32 GND, 33 XTAL2, 34 XTAL1, 61 VCC (power), 62 GND, 80 VCC (power), 81 GND, 98 AREF, 99 GND, 100 AVCC
part B pins: 71 PA7/AD7, 72 PA6/AD6, 73 PA5/AD5, 74 PA4/AD4, 75 PA3/AD3, 76 PA2/AD2, 77 PA1/AD1, 78 PA0/AD0
part C pins: 23 PB4/OC2A/PCINT4, 24 PB5/OC1A/PCINT5, 25 PB6/OC1B/PCINT6, 26 PB7/OC0A/OC1C/PCINT7
part D pins: 53 PC0/A8, 54 PC1/A9, 55 PC2/A10, 56 PC3/A11, 57 PC4/A12, 58 PC5/A13, 59 PC6/A14, 60 PC7/A15
part E pins: 47 PD4/ICP1, 48 PD5/XCK1, 49 PD6/T1, 50 PD7/T0
part F pins: 4 PE2/XCK0/AIN0, 5 PE3/OC3A/AIN1, 6 PE4/OC3B/INT4, 7 PE5/OC3C/INT5, 8 PE6/T3/INT6, 9 PE7/CLKO/ICP3/INT7
part G pins: 90 PF7/ADC7/TDI, 91 PF6/ADC6/TDO, 92 PF5/ADC5/TMS, 93 PF4/ADC4/TCK, 94 PF3/ADC3, 95 PF2/ADC2, 96 PF1/ADC1, 97 PF0/ADC0
part H pins: 1 PG5/OC0B, 28 PG3/TOSC2, 29 PG4/TOSC1, 51 PG0/~{WR}, 52 PG1/~{RD}, 70 PG2/ALE
part I pins: 14 PH2/XCK2, 15 PH3/OC4A, 16 PH4/OC4B, 17 PH5/OC4C, 18 PH6/OC2B, 27 PH7/T4
part J pins: 63 RXD3 (in), 64 TXD3 (out), 65 PJ2/XCK3/PCINT11, 66 PJ3/PCINT12, 67 PJ4/PCINT13, 68 PJ5/PCINT14, 69 PJ6/PCINT15, 79 PJ7
part K pins: 82 PK7/ADC15/PCINT23, 83 PK6/ADC14/PCINT22, 84 PK5/ADC13/PCINT21, 85 PK4/ADC12/PCINT20, 86 PK3/ADC11/PCINT19, 87 PK2/ADC10/PCINT18, 88 PK1/ADC9/PCINT17, 89 PK0/ADC8/PCINT16
part L pins: 35 PL0/ICP4, 36 PL1/ICP5, 37 PL2/T5, 38 PL3/OC5A, 39 PL4/OC5B, 40 PL5/OC5C, 41 PL6, 42 PL7
part M pins: 43 (SCL/INT0)_PD0 (out), 44 (SDA/INT1)_PD1 (io)
part N pins: 2 RXD0 (in), 3 TXD0 (out)
part O pins: 45 RXD1 (in), 46 TXD1 (out)
part P pins: 12 RXD2 (in), 13 TXD2 (out)
part B text: PORT A; Arduino Mega Pin Map; PA0 -; PA4 -; PA1 -; PA5 -; PA2 -; PA6 -; PA3 -; PA7 -
part C text: PORT B; Arduino Mega Pin Map; PB0 -; SS; PB4 -; PB1 -; SCK; PB5 -; PB2 -; MOSI; PB6 -; PB3 -; MISO; PB7 -
part D text: PORT C; Arduino Mega Pin Map; PC0 -; PC4 -; PC1 -; PC5 -; PC2 -; PC6 -; PC3 -; PC7 -
part E text: PORT D; Arduino Mega Pin Map; PD0 -; SCL; PD4 -; PD1 -; SDA; PD5 -; PD2 -; PD6 -; PD3 -; PD7 -
part F text: PORT E; Arduino Mega Pin Map; PE0 -; 0; PE4 -; PE1 -; PE5 -; PE2 -; NC; PE6 -; PE3 -; PE7 -
part G text: PORT F; Arduino Mega Pin Map; PF0 -; A0; PF4 -; A4; PF1 -; A1; PF5 -; A5; PF2 -; A2; PF6 -; A6; PF3 -; A3; PF7 -; A7
part H text: PORT G; Arduino Mega Pin Map; PG0 -; PG4 -; NC; PG1 -; PG5 -; PG2 -; PG3 -
part I text: PORT H; Arduino Mega Pin Map; PH0 -; PH4 -; NC; PH1 -; PH5 -; PH2 -; PH6 -; PH3 -; PH7 -
part J text: PORT J; GSM Communication; Arduino Mega Pin Map; PJ0 -; PJ4 -; NC; PJ1 -; PJ5 -; PJ2 -; PJ6 -; PJ3 -; PJ7 -
part K text: PORT K; Arduino Mega Pin Map; PK0 -; PK4 -; PK1 -; PK5 -; PK2 -; PK6 -; PK3 -; PK7 -
part L text: PORT L; Arduino Mega Pin Map; PL0 -; PL4 -; PL1 -; PL5 -; PL2 -; PL6 -; PL3 -; PL7 -
part M text: I2C; TWI (2 wire) Communication
part N text: UART0; Serial Communication
part O text: UART1; Serial Communication
part P text: UART2; Serial Communication

## IC - AZRS3080E
designator U?, comment Case: SO-8  Manufacturer Part Number: AZRS3080E  Manufacturer Name: Amazing Micro  (hidden comment: RS485 Modulator)
Half-duplex RS485 transceiver.; RoHS: Yes; ComponentLink1Description: DataSheet; ComponentLink1URL: https://www.amazingic.com/common/frontend/download?path=/uploads/images/products/PDF/AZRS/AZRS3080E.pdf
footprint SOP-8L (AZRS3080E)
pins: 1 RO (out), 2 ~{RE} (in), 3 DE (in), 4 DI (in), 5 GND, 6 A (io), 7 B (io), 8 VCC (power)

## IC - BQ24298RTWT
designator U?, comment Manufacturer Name: Texas Instruments  Case: WQFN24  (hidden comment: BQ24298RTWT)
I2C Controlled 3A Single Cell Charger; Operating Supply Current: 3 A.; Maximum Operating Temperature: +85; Minimum Operating Temperature: -40; ROHS: Yes; Product Type: Charge Management IC; Manufacturer Part Number: BQ24298RTWT
footprint WQFN-24
pins: 1 VBUS (power), 2 PSEL, 3 ~{PG}, 4 STAT, 5 SCL (in), 6 SDA (io), 7 INT (out), 8 OTG, 9 ~{CE}, 10 ILIM, 11 TS, 12 ~{QON}, 13 BAT (power), 14 BAT (power), 15 SYS (power), 16 SYS (power), 17 PGND (power), 18 PGND (power), 19 SW (power), 20 SW (power), 21 BTST (power), 22 REGN (power), 23 PMID (power), 24 VBUS (power), 25 EXP (power)
text: Max Current : 3A

## IC - CD4043B
designator U?, comment Case: SOIC-16  Manufacturer Part Number: CD4043B  Manufacturer Name: Texas Instruments  (hidden comment: CMOS Quad 3-State S-R Latch)
RoHS: Yes; ComponentLink1Description: DataSheet; ComponentLink1URL: https://www.ti.com/lit/ds/symlink/cd4043b.pdf
footprint SOIC-16 Medium
pins: 1 Q4 (out), 3 Set 1 (in), 4 Reset 1 (in), 5 EN (in), 6 Reset 2 (in), 7 Set 2 (in), 8 GND, 9 Q2 (out), 10 Q3 (out), 11 Set 3 (in), 12 Reset 3 (in), 13 Q1 (out), 14 Reset 4 (in), 15 Set 4 (in), 16 VCC (power)
text: S/R 1; S/R 2; S/R 3; S/R 4

## IC - DS28C
designator U?, comment Manufacturer Name: Maxim Integrated  Case: SOT23-5  (hidden comment: DS28CM00R-A00+T)
Security ICs / Authentication ICs I C/SMBus Silicon Serial Number; Data Bus Width: 64 bit; RoHS: Yes; Product Type: Security ICs; Manufacturer Part Number: DS28CM00R-A00+T
footprint SOT-23-5
pins: 1 SCL (in), 2 GND, 3 SDA (io), 4 NC hidden, 5 VCC (power)

## IC - FT234XD-R
designator U?, comment Manufacturer Name: FTDI Chip  Case: DFN-12  (hidden comment: FT234XD-R)
USB Interface IC USB to Serial UART Interface; Data Rate: 12 Mb/s; Interface Type: UART, USB; Number of Ports: 1 Port; Maximum Operating Temperature: + 85 C; Minimum Operating Temperature: - 40 C; Product Type: USB Interface IC; RoHS: Yes; Manufacturer Part Number: FT234XD-R
footprint FT234XD-R
pins: 1 USBDM (io), 2 RESET#, 3 3.3VOUT (power), 4 VCC (power), 5 GND (power), 6 CBUS0 (io), 7 TXD (out), 8 RTS# (out), 9 VCCIO (power), 10 RXD (in), 11 CTS# (in), 12 USBDP (io), 13 GND (power)

## IC - HDC2010
designator U?, comment Manufacturer Name: Texas Instruments  Case: DSBGA-6  (hidden comment: HDC2010YPAR)
GEN 2 HUMIDITY SENSOR; Product Type: T/H Sensor; Maximum Operating Temperature: + 85 C; Minimum Operating Temperature: - 40 C; Manufacturer Part Number: HDC2010YPAR
footprint HDC2010
pins: A1 VDD (power), A2 SDA (io), B1 ADDR, B2 SCL (in), C1 GND (power), C2 DRDY/INT

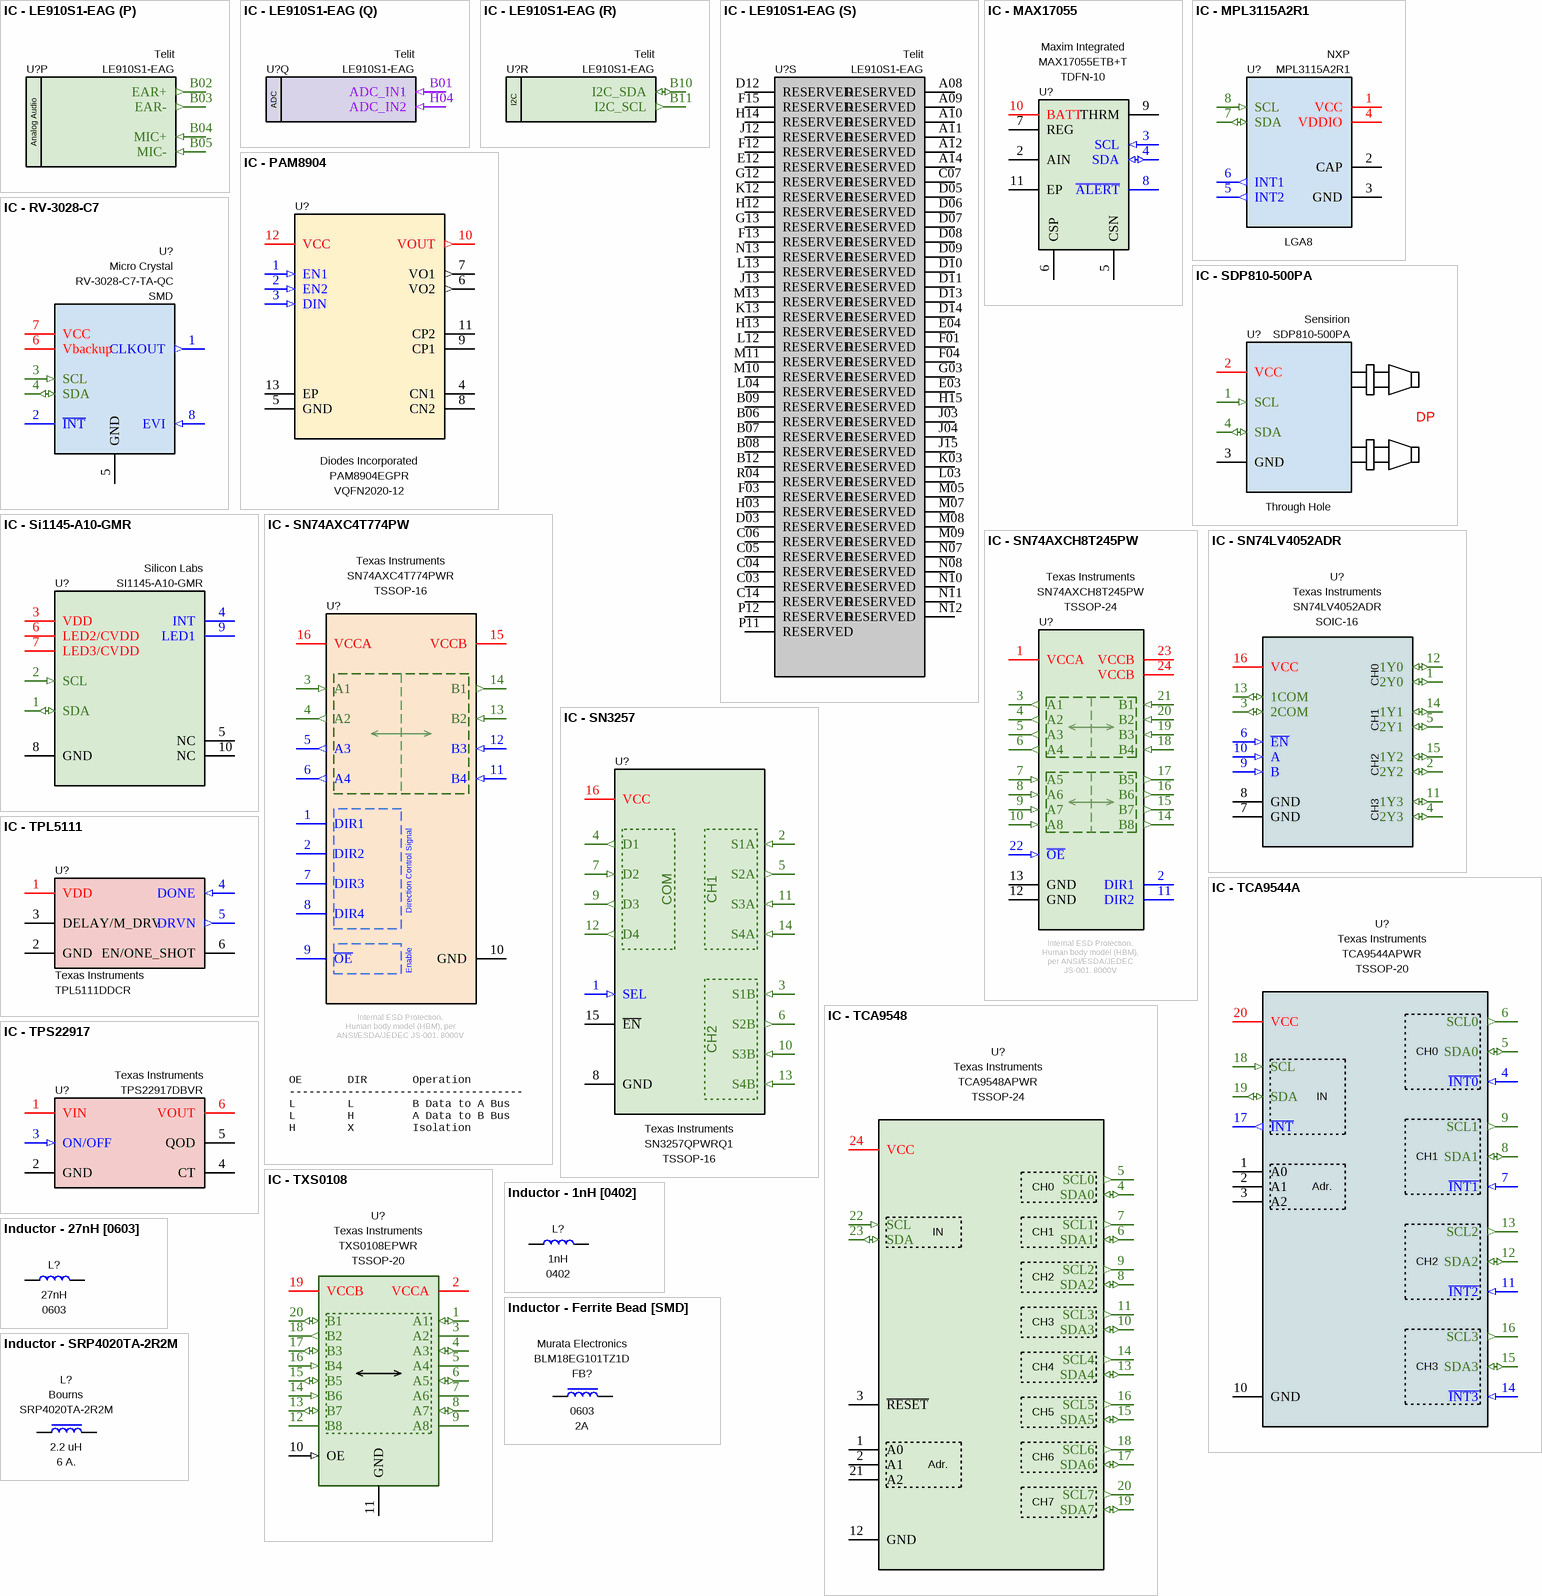
[diagram p3: symbols IC - LE910S1-EAG to Inductor - SRP4020TA-2R2M]

## IC - LE910S1-EAG
designator U?, comment Manufacturer Part Number: LE910S1-EAG  Manufacturer Name: Telit  (hidden comment: LE910S1-EAG LTE GSM Module)
Telit LE910S1-EAG GPRS/GNSS Module; Case: BGA
footprint LE910 GSM Modem
part A pins: A02 GND (power) "Ground", B13 GND (power) "Ground", D04 GND (power) "Ground", E01 GND (power) "Ground", E02 GND (power) "Ground", E13 VIO_1V8 (power), E14 GND (power) "Ground", F02 GND (power) "Ground", G01 GND (power) "Ground", G02 GND (power) "Ground", G07 GND (power) "Ground", G08 GND (power) "Ground", G09 GND (power) "Ground", H01 GND (power) "Ground", H02 GND (power) "Ground", H07 GND (power) "Ground", H08 GND (power) "Ground", H09 GND (power) "Ground", J01 GND (power) "Ground", J02 GND (power) "Ground", J07 GND (power) "Ground", J08 GND (power) "Ground", J09 GND (power) "Ground", K02 GND (power) "Ground", L01 GND (power) "Ground", L02 GND (power) "Ground", M01 VBATT (power) "Main power supply (Baseband)", M02 VBATT (power) "Main power supply (Baseband)", M03 GND (power) "Ground", M04 GND (power) "Ground", M12 GND (power) "Ground", N01 VBATT_PA (power) "Main power supply (Radio PA)", N02 VBATT_PA (power) "Main power supply (Radio PA)", N03 GND (power) "Ground", N04 GND (power) "Ground", N05 GND (power) "Ground", N06 GND (power) "Ground", P01 VBATT_PA (power) "Main power supply (Radio PA)", P02 VBATT_PA (power) "Main power supply (Radio PA)", P03 GND (power) "Ground", P04 GND (power) "Ground", P05 GND (power) "Ground", P06 GND (power) "Ground", P08 GND (power) "Ground", P09 GND (power) "Ground", P10 GND (power) "Ground", P13 GND (power) "Ground", R02 GND (power) "Ground", R03 GND (power) "Ground", R05 GND (power) "Ground", R06 GND (power) "Ground", R08 GND (power) "Ground", R10 GND (power) "Ground"
part B pins: L14 C105/RTS (oc) "Input for Request to send signal (RTS) from DTE", M14 C108/DTR (in) "Input for (DTR) from DTE", M15 C104/RXD (out) "Serial data output to DTE", N14 C109/DCD (out) "Output for (DCD) to DTE", N15 C103/TXD (in) "Serial data input from DTE", P14 C107/DSR (out) "Output for (DSR) to DTE", P15 C106/CTS (out) "Output for Clear to Send signal (CTS) to DTE"
part C pins: J14 GNSS_NMEA_TX (out) "UART NMEA Output", K14 GNSS_NMEA_RX (in) "UART NMEA Input"
part D pins: A03 SIMVCC1 (power) "External SIM signal 1 – Power supply for the SIM", A04 SIMIN1 (in) "External SIM signal 1 – Presence (active low)", A05 SIMIO1 (io) "External SIM signal 1 – Data I/O", A06 SIMCLK1 (out) "External SIM signal 1 – Clock", A07 SIMRST1 (out) "External SIM signal 1 – Reset"
part E pins: C01 SIMCLK2 (out) "Reserved", C02 SIMIO2 (io) "Reserved", D01 SIMRST2 (out), D02 SIMVCC2, G04 SIMIN2 (in) "External SIM signal – Presence (active low)"
part F pins: K01 ANTENNA "GSM/GPRS Antenna (50 ohm)"
part G pins: R07 GNSS_LNA_EN (out) "GNSS External LNA Enable", R09 ANT_GNSS "GNSS Antenna (50 ohm)"
part H pins: C08 GPIO_1 / STAT_LED (out) "GPIO_01 / STAT_LED"
part I pins: N09 GNSS_PPS (out), P07 GNSS_PPS "Ground"
part J pins: G14 GNSS_EN* "External GNSS ON-OFF", R12 ON_OFF* "Input command for power ON", R13 HW_SHUTDOWN* "HW Unconditional Shutdown"
part K pins: K15 SW_RDY (out) "GPIO_08", R11 VAUX/PWRMON (out) "Supply Output for external accessories / Power  ON Monitor", R14 RING (out) "Output for Ring (RI) to DTE"
part L pins: A13 USB_VBUS (power) "Power sense for USB presence", B15 USB_D+ (io) "USB differential Data (+)", C15 USB_D- (io) "USB differential Data (-)", F14 FORCED_USB_BOOT
part M pins: B14 GPIO_5 / I2C3_SCL (io) "GPIO_05 / RFTXMON", C09 GPIO_02 (io), C10 GPIO_3 / I2C2_SCL (io) "GPIO_03", C11 GPIO_4 / I2C2_SDA (io) "GPIO_04 / TX DISABLE", C12 GPIO_6 / I2C3_SDA (io) "GPIO_06 / ALARM", C13 GPIO_7 / GNSS_EN* OUT (out) "GPIO_07 / BUZZER", G15 GPIO_10 (io), L15 GPIO_09 (io)
part N pins: D15 TX_AUX (out) "Auxiliary UART (TX Data to DTE)/SPI_MOSI", E15 RX_AUX (in) "Auxiliary UART (RX Data from DTE)/SPI_MISO"
part O pins: K04 DEBUG_UART_TXD (out) "Trace UART RX", M06 DEBUG_UART_RXD (in) "Trace UART RX"
part P pins: B02 EAR+ (out) "Ear signal output, phase +", B03 EAR- (out) "Ear signal output, phase -", B04 MIC+ (in) "Microphone signal input; phase +", B05 MIC- (in) "Microphone signal input; phase -"
part Q pins: B01 ADC_IN1 (in) "Analog to Digital converter input", H04 ADC_IN2 (in) "Analog to Digital converter input"
part R pins: B10 I2C_SDA (io) "I2C Data", B11 I2C_SCL (out) "I2C clock"
part S pins: A08 RESERVED, A09 RESERVED, A10 RESERVED, A11 RESERVED, A12 RESERVED, A14 RESERVED, B06 RESERVED, B07 RESERVED, B08 RESERVED, B09 RESERVED, B12 RESERVED, C03 RESERVED, C04 RESERVED, C05 RESERVED, C06 RESERVED, C07 RESERVED, C14 RESERVED, D03 RESERVED, D05 RESERVED, D06 RESERVED, D07 RESERVED, D08 RESERVED, D09 RESERVED, D10 RESERVED, D11 RESERVED, D12 RESERVED, D13 RESERVED, D14 RESERVED, E03 RESERVED, E04 RESERVED, E12 RESERVED, F01 RESERVED, F03 RESERVED, F04 RESERVED, F12 RESERVED, F13 RESERVED, F15 RESERVED, G03 RESERVED, G12 RESERVED, G13 RESERVED, H03 RESERVED, H12 RESERVED, H13 RESERVED, H14 RESERVED, H15 RESERVED, J03 RESERVED, J04 RESERVED, J12 RESERVED, J13 RESERVED, J15 RESERVED, K03 RESERVED, K12 RESERVED, K13 RESERVED, L03 RESERVED, L04 RESERVED, L12 RESERVED, L13 RESERVED, M05 RESERVED, M07 RESERVED, M08 RESERVED, M09 RESERVED, M10 RESERVED, M11 RESERVED, M13 RESERVED, N07 RESERVED, N08 RESERVED, N10 RESERVED, N11 RESERVED, N12 RESERVED, N13 RESERVED, P11 RESERVED, P12 RESERVED, R04 RESERVED (power) "Ground"
part A text: Power Supply
part B text: Asynchronous UART
part C text: GNSS UART
part D text: SIM Card Interface 1
part E text: SIM Card Interface 2
part G text: GNSS Antenna
part H text: LED
part I text: LED
part J text: Control Signal
part K text: I/O Signal
part L text: USB Port
part M text: General Purpose Digital I/O
part N text: AUX UART
part O text: DEBUG
part P text: Analog Audio
part Q text: ADC
part R text: I2C

## IC - MAX17055
designator U?, comment Manufacturer Name: Maxim Integrated  Case: TDFN-10  (hidden comment: MAX17055ETB+T)
IC FUEL GAUGE MODELGAUGE 10TDFN; Minimum Operating Temperature: - 40 C; Product Type: Battery Gauge; Maximum Operating Temperature: + 85 C; Manufacturer Part Number: MAX17055ETB+T
footprint TDFN-10
pins: 2 AIN, 3 SCL (in), 4 SDA (io), 5 CSN (power), 6 CSP (power), 7 REG, 8 ~{ALERT} (oc), 9 THRM, 10 BATT (power), 11 EP

## IC - MPL3115A2R1
designator U?, comment Manufacturer Name: NXP  Case: LGA8  (hidden comment: MPL3115A2R1)
Board Mount Pressure Sensors; Operating Pressure: 20 kPa to 110 kPa; RoHS: Yes; Product Type: Absolute Pressure Sensors; Manufacturer Part Number: MPL3115A2R1
footprint MPL3115A2
pins: 1 VCC (power), 2 CAP, 3 GND (power), 4 VDDIO (power), 5 INT2 (out), 6 INT1 (out), 7 SDA (io), 8 SCL (in)

## IC - PAM8904
designator U?, comment Manufacturer Name: Diodes Incorporated  Case: VQFN2020-12  (hidden comment: PAM8904EGPR)
27VPP Piezo Sounder Driver, 1.5 to 5.5V, 0.22mA; Operating Supply Current: 7.9 mA; Supply Voltage - Min: 1.5 V; RoHS: Yes; Maximum Operating Temperature: + 85 C; Minimum Operating Temperature: - 40 C; Product Type: Audio Amplifiers; Supply Voltage - Max: 5.5 V; Manufacturer Part Number: PAM8904EGPR
footprint U-QFN2020-12
pins: 1 EN1 (in), 2 EN2 (in), 3 DIN (in), 4 CN1, 5 GND, 6 VO2 (out), 7 VO1 (out), 8 CN2, 9 CP1, 10 VOUT (out), 11 CP2, 12 VCC (power), 13 EP

## IC - RV-3028-C7
designator U?, comment Manufacturer Name: Micro Crystal  Manufacturer Part Number: RV-3028-C7-TA-QC  Case: SMD  (hidden comment: RV-3028-C7 32.768KHZ 1PPM TA QC)
IC Rtc Clk/calendar I2C 8-SMT; Supply Voltage - Max: 5.5 V; Supply Voltage - Min: 1.2 V; Product Type: Real Time Clocks; Minimum Operating Temperature: - 40 C; Maximum Operating Temperature: + 85 C
footprint RV-3028-C7 (RTC Clock)
pins: 1 CLKOUT (out), 2 ~{INT}, 3 SCL (in), 4 SDA (io), 5 GND (power), 6 Vbackup (power), 7 VCC (power), 8 EVI (in)

## IC - SDP810-500PA
designator U?, comment Manufacturer Name: Sensirion  Case: Through Hole  (hidden comment: SDP810-500PA)
Board Mount Pressure Sensors Tube Connection, I2C , 500Pa; Operating Pressure: - 500 Pa to 500 Pa; Accuracy: 3 %; RoHS: Yes; Product Type: Differential Pressure Sensors; Manufacturer Part Number: SDP810-500PA
footprint SDP810-500PA (Sensirion DP Sensor)
pins: 1 SCL (in), 2 VCC (power), 3 GND, 4 SDA (io)
text: DP

## IC - Si1145-A10-GMR
designator U?, comment Manufacturer Name: Silicon Labs  (hidden comment: Si1145-A10-GMR)
Proximity Sensors I2C UV Index and Proximity/Ambient Light Sensor with 1 LED Driver; Case: QFN-10; RoHS: Yes; Manufacturer Part Number: SI1145-A10-GMR
footprint SI1145 (UV Sensor)
pins: 1 SDA (io), 2 SCL (in), 3 VDD (power), 4 INT, 5 NC, 6 LED2/CVDD (power), 7 LED3/CVDD (power), 8 GND (power), 9 LED1, 10 NC

## IC - SN74AXC4T774PW
designator U?, comment Manufacturer Name: Texas Instruments  Case: TSSOP-16  (hidden comment: SN74AXC4T774PWR)
4-bit dual-supply bus transceiver with 3-state outputs and independent direction control inputs; Number of Channels: 4 Channel; Data Rate: 310Mbps; Channel Type: Bidirectional; Supply Voltage - Min: 0V65; Supply Voltage - Max: 3V6; Output Type: Tri-State, Non-Inverted; Operating Supply Current: 40 uA; Propagation Delay Time: 5 ns; ROHS: Yes; Series: 74AXC; Minimum Operating Temperature: - 40 C; Product Type: Translation - Voltage Levels; Maximum Operating Temperature: + 125 C; Manufacturer Part Number: SN74AXC4T774PWR
footprint TSSOP-16
pins: 1 DIR1 "Direction-control input for port 1. Referenced to", 2 DIR2 "Direction-control input for port 2. Referenced to", 3 A1 (in) "Input/output A1. Referenced to VCCA.", 4 A2 (out) "Input/output A2. Referenced to VCCA.", 5 A3 (out) "Input/output A3. Referenced to VCCA.", 6 A4 (out) "Input/output A4. Referenced to VCCA.", 7 DIR3 "Direction-control input for port 3. Referenced to", 8 DIR4 "Direction-control input for port 4. Referenced to", 9 ~{OE} "Tri-state output enable. Pull OE high to place all", 10 GND (power) "Ground", 11 B4 (in) "Input/output B4. Referenced to VCCB.", 12 B3 (in) "Input/output B3. Referenced to VCCB.", 13 B2 (in) "Input/output B2. Referenced to VCCB.", 14 B1 (out) "Input/output B1. Referenced to VCCB.", 15 VCCB (power) "B-port power supply voltage. 0V65 ≤ VCCB ≤ 3V6", 16 VCCA (power) "A-port power supply voltage. 0V65 ≤ VCCA ≤ 3V6"
text: Direction Control Signal; Enable; Internal ESD Protection. / Human body model (HBM), per ANSI/ESDA/JEDEC JS-001. 8000V; OE       DIR       Operation / ------------------------------------ / L        L         B Data to A Bus / L        H         A Data to B Bus / H        X         Isolation

## IC - SN74AXCH8T245PW
designator U?, comment Manufacturer Name: Texas Instruments  Case: TSSOP-24  (hidden comment: SN74AXCH8T245PW)
Translation - Voltage Levels 8-Bit Dual-Supply Bus Transceiver 24-TSSOP -40 to 125; Number of Channels: 8 Channel; Logic Family: AXC; Data Rate: 380Mbps; Channel Type: Bidirectional; Supply Voltage - Min: 0V65; Supply Voltage - Max: 3V6; Output Type: Tri-State, Non-Inverted; Operating Supply Current: 60 uA; Propagation Delay Time: 4 ns; ROHS: Yes; Minimum Operating Temperature: - 40 C; Product Type: Translation - Voltage Levels; Maximum Operating Temperature: + 125 C; Manufacturer Part Number: SN74AXCH8T245PW
footprint TSSOP-24
pins: 1 VCCA (power) "A-port supply voltage. 0.65 V ≤ VCCA ≤ 3.6 V", 2 DIR1 "Direction-control signal. Referenced to VCCA", 3 A1 (out) "Input/output A1. Referenced to VCCA.", 4 A2 (out) "Input/output A1. Referenced to VCCA.", 5 A3 (out) "Input/output A3. Referenced to VCCA.", 6 A4 (out) "Input/output A4. Referenced to VCCA.", 7 A5 (in) "Input/output A5. Referenced to VCCA.", 8 A6 (in) "Input/output A6. Referenced to VCCA.", 9 A7 (in) "Input/output A7. Referenced to VCCA.", 10 A8 (in) "Input/output A8. Referenced to VCCA.", 11 DIR2 "Direction-control signal. Referenced to VCCA", 12 GND (power) "Ground", 13 GND (power) "Ground", 14 B8 (out) "Input/output B8. Referenced to VCCB.", 15 B7 (out) "Input/output B7. Referenced to VCCB.", 16 B6 (out) "Input/output B6. Referenced to VCCB.", 17 B5 (out) "Input/output B5. Referenced to VCCB.", 18 B4 (in) "Input/output B4. Referenced to VCCB.", 19 B3 (in) "Input/output B3. Referenced to VCCB.", 20 B2 (in) "Input/output B2. Referenced to VCCB.", 21 B1 (in) "Input/output B1. Referenced to VCCB", 22 ~{OE} (in) "Output Enable", 23 VCCB (power) "B-port supply voltage. 0.65 V ≤ VCCB ≤ 3.6 V", 24 VCCB (power) "B-port supply voltage. 0.65 V ≤ VCCB ≤ 3.6 V"
text: Internal ESD Protection. / Human body model (HBM), per ANSI/ESDA/JEDEC JS-001. 8000V

## IC - SN74LV4052ADR
designator U?, comment Manufacturer Name: Texas Instruments  Case: SOIC-16  (hidden comment: SN74LV4052ADR)
Multiplexer Switch ICs Dual 4-Ch Analog Mltplxr/Demltplxr; Channel: 4; Maximum Operating Temperature: + 85 C; Minimum Operating Temperature: - 40 C; Product Type: Multiplexer Switch ICs; Manufacturer Part Number: SN74LV4052ADR
footprint SOIC-16 Narrow
pins: 1 2Y0 (io), 2 2Y2 (io), 3 2COM (io), 4 2Y3 (io), 5 2Y1 (io), 6 ~{EN} (in), 7 GND (power), 8 GND (power), 9 B (in), 10 A (in), 11 1Y3 (io), 12 1Y0 (io), 13 1COM (io), 14 1Y1 (io), 15 1Y2 (io), 16 VCC (power)
text: CH0; CH1; CH2; CH3

## IC - SN3257
designator U?, comment Manufacturer Name: Texas Instruments  Case: TSSOP-16  (hidden comment: SN3257QPWRQ1)
Automotive 5-V, 2: 1 (SPDT), 4-channel switch with 1.8-V logic and powered-off protection 16-TSSOP -40 to 125; Supply Voltage - Max: 5.5 V; Supply Voltage - Min: 1.5 V; On Time - Max: 35 us, 60 us; Off Time - Max: 2.7 us, 95 ns; Supply Current - Max: 68 uA; Number of Channels: 4 Channel; On Resistance - Max: 5 Ohms; Product Type: Switch ICs; RoHS: Yes; Minimum Operating Temperature: - 40 C; Maximum Operating Temperature: + 125 C; Manufacturer Part Number: SN3257QPWRQ1
footprint TSSOP-16
pins: 1 SEL (in), 2 S1A (in), 3 S1B (in), 4 D1 (out), 5 S2A (out), 6 S2B (out), 7 D2 (in), 8 GND (power), 9 D3 (out), 10 S3B (in), 11 S3A (in), 12 D4 (out), 13 S4B (in), 14 S4A (in), 15 ~{EN} (power), 16 VCC (power)
text: COM; CH1; CH2

## IC - TCA9544A
designator U?, comment Manufacturer Name: Texas Instruments  Manufacturer Part Number: TCA9544APWR  Case: TSSOP-20  (hidden comment: TCA9548APWR)
TEXAS INSTRUMENTS - TCA9548APWR - I2C SWITCH W/ RESET, 8-CH, TSSOP-24; Channel: 4; Maximum Operating Temperature: + 85 C; Minimum Operating Temperature: - 40 C; Product Type: Switch ICs
footprint TSSOP-20
pins: 1 A0, 2 A1, 3 A2, 4 ~{INT0} (in), 5 SDA0 (io), 6 SCL0 (out), 7 ~{INT1} (in), 8 SDA1 (io), 9 SCL1 (out), 10 GND (power), 11 ~{INT2} (in), 12 SDA2 (io), 13 SCL2 (out), 14 ~{INT3} (in), 15 SDA3 (io), 16 SCL3 (out), 17 ~{INT} (out), 18 SCL (in), 19 SDA (io), 20 VCC (power)
text: CH0; IN; CH1; Adr.; CH2; CH3

## IC - TCA9548
designator U?, comment Manufacturer Name: Texas Instruments  Case: TSSOP-24  (hidden comment: TCA9548APWR)
TEXAS INSTRUMENTS - TCA9548APWR - I2C SWITCH W/ RESET, 8-CH, TSSOP-24; Supply Current - Max: 80 uA; Channel: 8; Maximum Operating Temperature: + 85 C; Minimum Operating Temperature: - 40 C; Product Type: Switch ICs; Manufacturer Part Number: TCA9548APWR
footprint TSSOP-24
pins: 1 A0, 2 A1, 3 ~{RESET} (power), 4 SDA0 (io), 5 SCL0 (out), 6 SDA1 (io), 7 SCL1 (out), 8 SDA2 (io), 9 SCL2 (out), 10 SDA3 (io), 11 SCL3 (out), 12 GND (power), 13 SDA4 (io), 14 SCL4 (out), 15 SDA5 (io), 16 SCL5 (out), 17 SDA6 (io), 18 SCL6 (out), 19 SDA7 (io), 20 SCL7 (out), 21 A2, 22 SCL (in), 23 SDA (io), 24 VCC (power)
text: CH0; IN; CH1; CH2; CH3; CH4; CH5; CH6; Adr.; CH7

## IC - TPL5111
designator U?, comment Manufacturer Name: Texas Instruments  (hidden comment: TPL5111DDCR)
NANO-POWER SYSTEM TIMER FOR POWE; Maximum Operating Temperature: + 105 C; Minimum Operating Temperature: - 40 C; RoHS: Yes; Case: SOT-23-6; Product Type: Timers; Manufacturer Part Number: TPL5111DDCR
footprint SOT-23-6
pins: 1 VDD (power), 2 GND (power), 3 DELAY/M_DRV, 4 DONE (in), 5 DRVN (out), 6 EN/ONE_SHOT

## IC - TPS22917
designator U?, comment Manufacturer Part Number: TPS22917DBVR  Manufacturer Name: Texas Instruments  (hidden comment: Power Switch)
Power Switch MosFet; Height: 1.45mm; ComponentLink1Description: DataSheet; ComponentLink1URL: http://www.ti.com/lit/gpn/tps22917; ComponentLink2Description: Mouser; ComponentLink2URL: https://www.mouser.com/Search/Refine.aspx?Keyword=595-TPS22917DBVR; Case: SOT-23-6
footprint SOT-23-6
pins: 1 VIN (power), 2 GND (power), 3 ON/OFF (in), 4 CT (power), 5 QOD (power), 6 VOUT (power)

## IC - TXS0108
designator U?, comment Manufacturer Name: Texas Instruments  Case: TSSOP-20  (hidden comment: TXS0108EPWR)
IC 8BIT NON-INV TRANSLTR 20TSSOP; Supply Voltage - Max: 5.5 V; Supply Voltage - Min: 1.2 V, 1.65 V; High Level Output Current: 50 mA; Data Rate: 60 Mb/s; RoHS: Yes; Product Type: Translation ICs; Minimum Operating Temperature: - 40 C; Low Level Output Current: 50 mA; Maximum Operating Temperature: + 85 C; Manufacturer Part Number: TXS0108EPWR
footprint TSSOP-20
pins: 1 A1 (io), 2 VCCA (power), 3 A2, 4 A3 (io), 5 A4, 6 A5 (io), 7 A6, 8 A7 (io), 9 A8, 10 OE (in), 11 GND, 12 B8, 13 B7 (io), 14 B6 (in), 15 B5 (io), 16 B4 (in), 17 B3 (io), 18 B2 (out), 19 VCCB (power), 20 B1 (io)

## Inductor - 1nH [0402]
designator L?, comment value 1nH  Case: 0402  (hidden comment: Fixed Inductor)
Manufacturer Name: Murata Electronics; Manufacturer Part Number: LQG15HN1N0S02D; Tolerance: 0.3 nH; Height: 0.35mm; ComponentLink1Description: DataSheet; ComponentLink1URL: https://www.mouser.com.tr/datasheet/2/281/JELF243B-0009-1699631.pdf
footprint INDUCTOR_0402 (Chip Inductor, IPC High Density)
pins: 1, 2

## Inductor - 27nH [0603]
designator L?, comment value 27nH  Case: 0603  (hidden comment: Fixed Inductor)
Manufacturer Name: Murata Electronics; Manufacturer Part Number: LQW18AN27NJ00D; Tolerance: 5%; Height: 0.8mm; ComponentLink1Description: DataSheet; ComponentLink1URL: https://www.mouser.com.tr/datasheet/2/281/JELF243B-0009-1699631.pdf
footprint INDUCTOR_0603 (Chip Ferrite Bead)
pins: 1, 2

## Inductor - Ferrite Bead [SMD]
designator FB?, comment Maximum DC Current: 2A  Case: 0603  Manufacturer Part Number: BLM18EG101TZ1D  Manufacturer Name: Murata Electronics  (hidden comment: Ferrite Bead)
Ferrite Beads 0603 100ohms 2000mA Auto Infotainment; Maximum DC Resistance: 45 mOhms; Tolerance: 25%; Value: BLM18EG101TZ1D; Height: 0.75mm; Maximum Operating Temperature: + 125; Minimum Operating Temperature: -55
footprint INDUCTOR_0603 (Chip Ferrite Bead)
pins: 1, 2

## Inductor - SRP4020TA-2R2M
designator L?, comment value 2.2 uH  Manufacturer Name: Bourns  Maximum DC Current: 6 A.  (hidden comment: SRP4020TA-2R2M)
6 A. 2.2uH Power inducator, 20% tol, SMD, RoHS; Maximum DC Resistance: 61 mOhms; Core Material: Carbonyl Powder; Maximum Operating Temperature: +150 C; ROHS: Yes; Tolerance: 20%; Minimum Operating Temperature: -40 C; Height: 1.8mm; Product Type: Fixed Inductors; Case: SMD; Manufacturer Part Number: SRP4020TA-2R2M
footprint SRP4020TA (Inductor)
pins: 1, 2

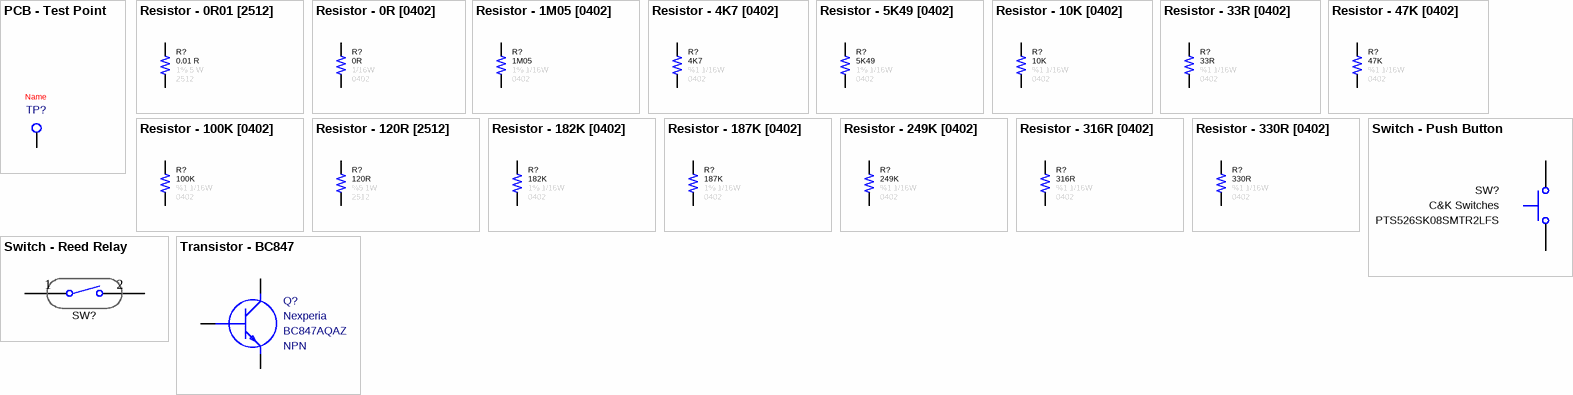
[diagram p4: symbols PCB - Test Point to Transistor - BC847]

## PCB - Test Point
designator TP?  (no BOM)
Test Point; Name: Name
footprint Test_Point (TEST POINT)
pins: 1

## Resistor - 0R01 [2512]
designator R?, comment value 0.01 R  Tolerance: 1%  Power: 5 W  Case: 2512  (hidden comment: 0R01 - 2512 - %1 - 5W)
Shunt Resistors - SMD 5 W 0.01 Ohm 1%; Manufacturer Part Number: TLRH3APTTE10L0F; Manufacturer Name: KOA Speer
footprint RESISTOR_2512 SHUNT (Chip Resistor, IPC High Density)
pins: 1, 2

## Resistor - 0R [0402]
designator R?, comment value 0R  Case: 0402  Power: 1/16W  (hidden comment: 0R - 0402 - %1 - 1/16W)
Thick Film Resistors - SMD 1/16 W 0 Ohm; Manufacturer Name: Vishay; Manufacturer Part Number: CRCW04020000Z0ED; ComponentLink1Description: DataSheet; ComponentLink1URL: https://www.mouser.com.tr/datasheet/2/427/dcrcwe3-1762152.pdf; ComponentLink2Description: Mouser; ComponentLink2URL: https://www.mouser.com.tr/ProductDetail/Vishay-Dale/CRCW04020000Z0ED?qs=sGAEpiMZZMu61qfTUdNhG2DpbjADlD3GG34cJb50zyg%3D
footprint RESISTOR_0402 (Chip Resistor, IPC High Density)
pins: 1, 2

## Resistor - 1M05 [0402]
designator R?, comment value 1M05  Power: 1/16W  Case: 0402  Tolerance: 1%  (hidden comment: 1M05 - 0402 - %1 - 1/16W)
Thick Film Resistors - SMD 1/16 W 1.05 MOhm 1%; Manufacturer Name: Vishay; Manufacturer Part Number: CRCW04021M05FKED
footprint RESISTOR_0402 (Chip Resistor, IPC High Density)
pins: 1, 2

## Resistor - 4K7 [0402]
designator R?, comment value 4K7  Tolerance: %1  Case: 0402  Power: 1/16W  (hidden comment: 4K7 - 0402 - %1 - 1/16W)
Thick Film Resistors - SMD 1/16 W 4.7 KOhm 1%; Manufacturer Name: Vishay; Manufacturer Part Number: CRCW04024K70FKED; ComponentLink1Description: DataSheet; ComponentLink1URL: https://www.mouser.com.tr/datasheet/2/427/dcrcwe3-1762152.pdf; ComponentLink2Description: Mouser; ComponentLink2URL: https://www.mouser.com.tr/ProductDetail/Vishay-Dale/CRCW04024K70FKED?qs=sGAEpiMZZMu61qfTUdNhG7nHf%2F6MTUn3HadIdDQu24Q%3D
footprint RESISTOR_0402 (Chip Resistor, IPC High Density)
pins: 1, 2

## Resistor - 5K49 [0402]
designator R?, comment value 5K49  Power: 1/16W  Case: 0402  Tolerance: 1%  (hidden comment: 5K49 - 0402 - %1 - 1/16W)
Thick Film Resistors - SMD 1/16 W 5.49 KOhm 1%; Manufacturer Name: Vishay; Manufacturer Part Number: CRCW04025K49FKED
footprint RESISTOR_0402 (Chip Resistor, IPC High Density)
pins: 1, 2

## Resistor - 10K [0402]
designator R?, comment value 10K  Tolerance: %1  Case: 0402  Power: 1/16W  (hidden comment: 10K - 0402 - %1 - 1/16W)
Thick Film Resistors - SMD 1/16 W 10 KOhm 1%; Manufacturer Name: Vishay; Manufacturer Part Number: CRCW040210K0FKED; ComponentLink1Description: DataSheet; ComponentLink1URL: https://www.mouser.com.tr/datasheet/2/427/dcrcwe3-1762152.pdf; ComponentLink2Description: Mouser; ComponentLink2URL: https://www.mouser.com.tr/ProductDetail/Vishay-Dale/CRCW040210K0FKED?qs=sGAEpiMZZMu61qfTUdNhG2DpbjADlD3GcalbOv9utCY%3D
footprint RESISTOR_0402 (Chip Resistor, IPC High Density)
pins: 1, 2

## Resistor - 33R [0402]
designator R?, comment value 33R  Case: 0402  Tolerance: %1  Power: 1/16W  (hidden comment: 33R - 0402 - %1 - 1/16W)
Thick Film Resistors - SMD 1/16 W 33 Ohm 1%; Manufacturer Name: Vishay; Manufacturer Part Number: CRCW040233R0FKED; ComponentLink1Description: DataSheet; ComponentLink1URL: https://www.mouser.com.tr/datasheet/2/427/dcrcwe3-1762152.pdf; ComponentLink2Description: Mouser; ComponentLink2URL: https://www.mouser.com.tr/ProductDetail/Vishay-Dale/CRCW0402330RFKED?qs=sGAEpiMZZMu61qfTUdNhG2DpbjADlD3GGS6SwBlLi5Q%3D
footprint RESISTOR_0402 (Chip Resistor, IPC High Density)
pins: 1, 2